# Altium integrated library Renesas Microcontroller 740.IntLib: 274 symbols (part 1 of 13)
Pins are listed as number, name and electrical type; pins without a type are passive.

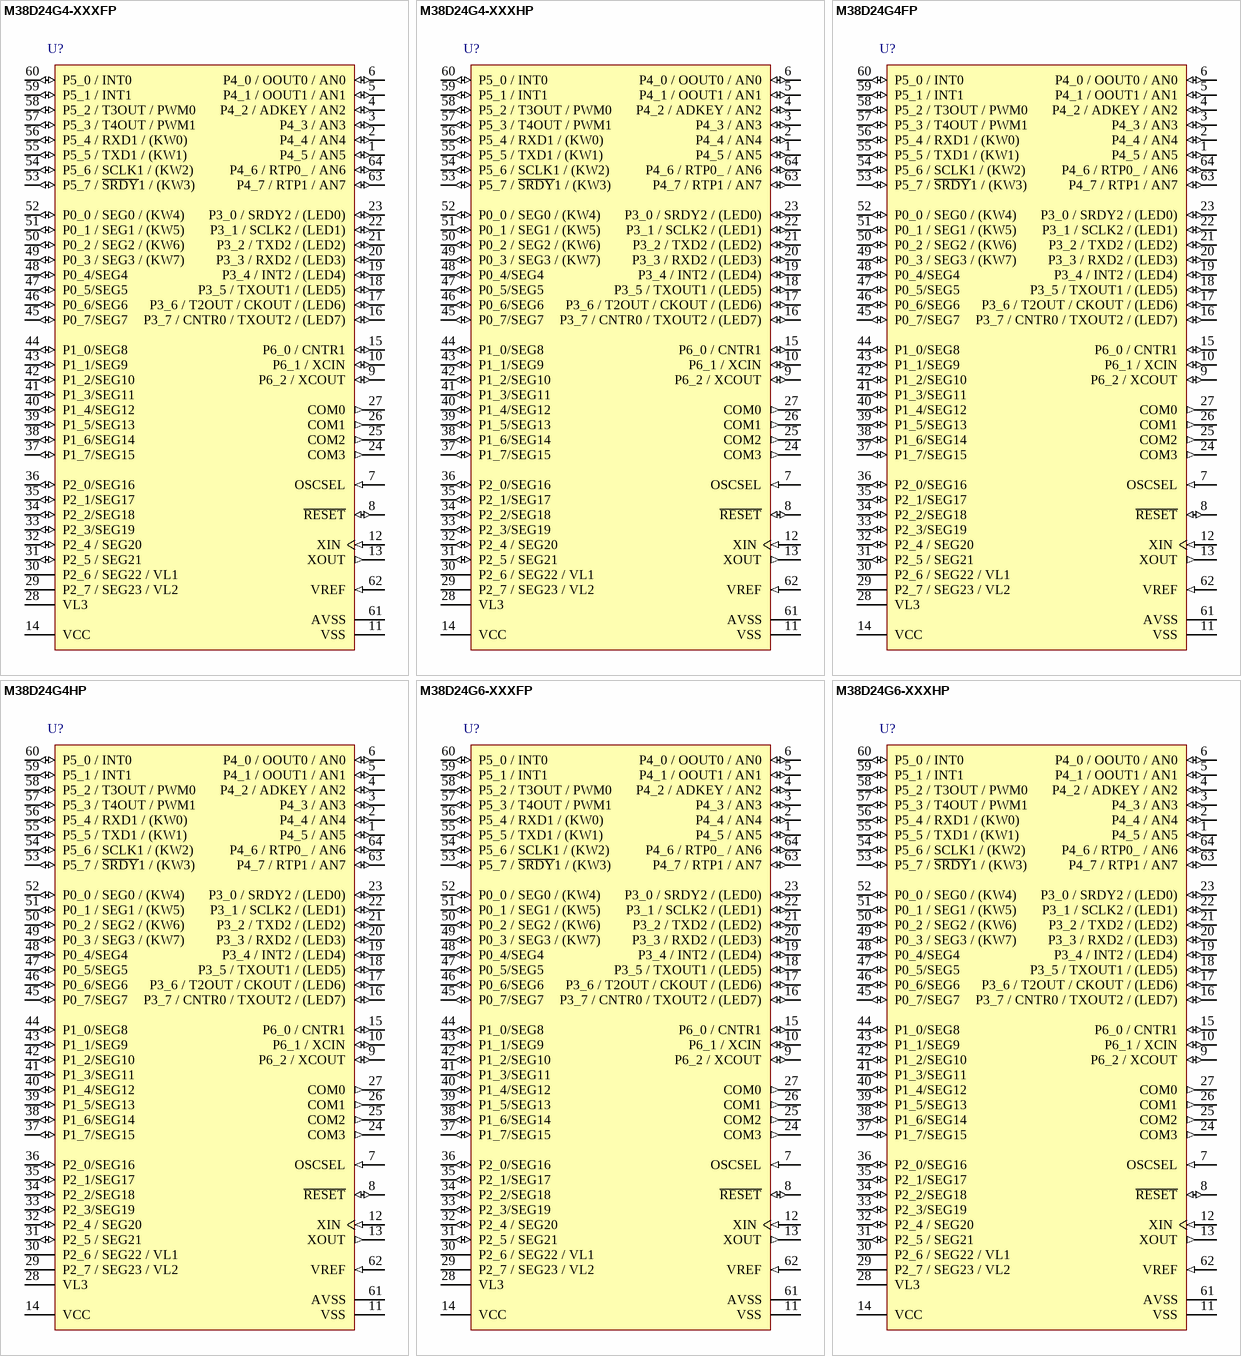
[diagram p0: symbols M38D24G4-XXXFP to M38D24G6-XXXHP]

## M38D24G4-XXXFP
designator U?
QzROM 8-BIT CMOS Microcomputer, 38000/740 Series CPU, 38D2 Group, 16K ROM, 640 bytes RAM, 64P6U-A Pkg; Published: 28-Aug-2009; DatasheetVersion: Rev.3.02, Apr-2008; PackageVersion: Oct-2005; PackageReference: PLQP0064GA-A; Publisher: Altium Limited; PackageDescription: 64-Pin Plastic Low Profile QFP, 14 x 14 x 1.4 mm Body, 0.8 mm Pitch; Code_JEITA: P-LQFP64-14x14-0.80; ComponentLink1Description: Manufacturer Link; ComponentLink1URL: http://sg.renesas.com/fmwk.jsp?cnt=740_family_landing.jsp&fp=/products/mpumcu/740_family/; ComponentLink2Description: Datasheet; ComponentLink2URL: http://documentation.renesas.com/eng/products/mpumcu/rej03b0177_38d2ds.pdf; ComponentLink3Description: Packaging Specification; ComponentLink3URL: http://sg.renesas.com/media/products/common_info/package/pdf/ic/code/plqp0064ga_a.pdf
footprint PLQP0064GA-A_N (QFP, 64-Leads, Body 14x14mm, Pitch 0.8mm, IPC Medium Density)
footprint PLQP0064GA-A_L (QFP, 64-Leads, Body 14x14mm, Pitch 0.8mm, IPC High Density)
footprint PLQP0064GA-A_M (QFP, 64-Leads, Body 14x14mm, Pitch 0.8mm, IPC Low Density)
pins: 1 P4_5 / AN5 (io), 2 P4_4 / AN4 (io), 3 P4_3 / AN3 (io), 4 P4_2 / ADKEY / AN2 (io), 5 P4_1 / OOUT1 / AN1 (io), 6 P4_0 / OOUT0 / AN0 (io), 7 OSCSEL (in), 8 ~{RESET} (io), 9 P6_2 / XCOUT (io), 10 P6_1 / XCIN (io), 11 VSS (power), 12 XIN (in), 13 XOUT (out), 14 VCC (power), 15 P6_0 / CNTR1 (io), 16 P3_7 / CNTR0 / TXOUT2 / (LED7) (io), 17 P3_6 / T2OUT / CKOUT / (LED6) (io), 18 P3_5 / TXOUT1 / (LED5) (io), 19 P3_4 / INT2 / (LED4) (io), 20 P3_3 / RXD2 / (LED3) (io), 21 P3_2 / TXD2 / (LED2) (io), 22 P3_1 / SCLK2 / (LED1) (io), 23 P3_0 / SRDY2 / (LED0) (io), 24 COM3 (out), 25 COM2 (out), 26 COM1 (out), 27 COM0 (out), 28 VL3 (power), 29 P2_7 / SEG23 / VL2, 30 P2_6 / SEG22 / VL1, 31 P2_5 / SEG21 (io), 32 P2_4 / SEG20 (io), 33 P2_3/SEG19 (io), 34 P2_2/SEG18 (io), 35 P2_1/SEG17 (io), 36 P2_0/SEG16 (io), 37 P1_7/SEG15 (io), 38 P1_6/SEG14 (io), 39 P1_5/SEG13 (io), 40 P1_4/SEG12 (io), 41 P1_3/SEG11 (io), 42 P1_2/SEG10 (io), 43 P1_1/SEG9 (io), 44 P1_0/SEG8 (io), 45 P0_7/SEG7 (io), 46 P0_6/SEG6 (io), 47 P0_5/SEG5 (io), 48 P0_4/SEG4 (io), 49 P0_3 / SEG3 / (KW7) (io), 50 P0_2 / SEG2 / (KW6) (io), 51 P0_1 / SEG1 / (KW5) (io), 52 P0_0 / SEG0 / (KW4) (io), 53 P5_7 / ~{SRDY}1 / (KW3) (io), 54 P5_6 / SCLK1 / (KW2) (io), 55 P5_5 / TXD1 / (KW1) (io), 56 P5_4 / RXD1 / (KW0) (io), 57 P5_3 / T4OUT / PWM1 (io), 58 P5_2 / T3OUT / PWM0 (io), 59 P5_1 / INT1 (io), 60 P5_0 / INT0 (io), 61 AVSS (power), 62 VREF (in), 63 P4_7 / RTP1 / AN7 (io), 64 P4_6 / RTP0_ / AN6 (io)

## M38D24G4-XXXHP
designator U?
QzROM 8-BIT CMOS Microcomputer, 38000/740 Series CPU, 38D2 Group, 16K ROM, 640 bytes RAM, 64P6Q-A Pkg; Published: 28-Aug-2009; DatasheetVersion: Rev.3.02, Apr-2008; PackageVersion: Sep-2005; PackageReference: PLQP0064KB-A; Publisher: Altium Limited; PackageDescription: 64-Pin Plastic Low Profile QFP, 10 x 10 x 1.4 mm Body, 0.5 mm Pitch; Code_JEITA: P-LQFP64-10x10-0.50; Code_IPC: SQFP50P1200X1200-64; ComponentLink1Description: Manufacturer Link; ComponentLink1URL: http://sg.renesas.com/fmwk.jsp?cnt=740_family_landing.jsp&fp=/products/mpumcu/740_family/; ComponentLink2Description: Datasheet; ComponentLink2URL: http://documentation.renesas.com/eng/products/mpumcu/rej03b0177_38d2ds.pdf; ComponentLink3Description: Packaging Specification; ComponentLink3URL: http://sg.renesas.com/media/products/common_info/package/pdf/ic/code/plqp0064kb_a.pdf
footprint PLQP0064KB-A_N (Shrink QFP, 64-Leads, Body 10x10mm, Pitch 0.5mm, IPC Medium Density)
footprint PLQP0064KB-A_L (Shrink QFP, 64-Leads, Body 10x10mm, Pitch 0.5mm, IPC High Density)
footprint PLQP0064KB-A_M (Shrink QFP, 64-Leads, Body 10x10mm, Pitch 0.5mm, IPC Low Density)
pins: 1 P4_5 / AN5 (io), 2 P4_4 / AN4 (io), 3 P4_3 / AN3 (io), 4 P4_2 / ADKEY / AN2 (io), 5 P4_1 / OOUT1 / AN1 (io), 6 P4_0 / OOUT0 / AN0 (io), 7 OSCSEL (in), 8 ~{RESET} (io), 9 P6_2 / XCOUT (io), 10 P6_1 / XCIN (io), 11 VSS (power), 12 XIN (in), 13 XOUT (out), 14 VCC (power), 15 P6_0 / CNTR1 (io), 16 P3_7 / CNTR0 / TXOUT2 / (LED7) (io), 17 P3_6 / T2OUT / CKOUT / (LED6) (io), 18 P3_5 / TXOUT1 / (LED5) (io), 19 P3_4 / INT2 / (LED4) (io), 20 P3_3 / RXD2 / (LED3) (io), 21 P3_2 / TXD2 / (LED2) (io), 22 P3_1 / SCLK2 / (LED1) (io), 23 P3_0 / SRDY2 / (LED0) (io), 24 COM3 (out), 25 COM2 (out), 26 COM1 (out), 27 COM0 (out), 28 VL3 (power), 29 P2_7 / SEG23 / VL2, 30 P2_6 / SEG22 / VL1, 31 P2_5 / SEG21 (io), 32 P2_4 / SEG20 (io), 33 P2_3/SEG19 (io), 34 P2_2/SEG18 (io), 35 P2_1/SEG17 (io), 36 P2_0/SEG16 (io), 37 P1_7/SEG15 (io), 38 P1_6/SEG14 (io), 39 P1_5/SEG13 (io), 40 P1_4/SEG12 (io), 41 P1_3/SEG11 (io), 42 P1_2/SEG10 (io), 43 P1_1/SEG9 (io), 44 P1_0/SEG8 (io), 45 P0_7/SEG7 (io), 46 P0_6/SEG6 (io), 47 P0_5/SEG5 (io), 48 P0_4/SEG4 (io), 49 P0_3 / SEG3 / (KW7) (io), 50 P0_2 / SEG2 / (KW6) (io), 51 P0_1 / SEG1 / (KW5) (io), 52 P0_0 / SEG0 / (KW4) (io), 53 P5_7 / ~{SRDY}1 / (KW3) (io), 54 P5_6 / SCLK1 / (KW2) (io), 55 P5_5 / TXD1 / (KW1) (io), 56 P5_4 / RXD1 / (KW0) (io), 57 P5_3 / T4OUT / PWM1 (io), 58 P5_2 / T3OUT / PWM0 (io), 59 P5_1 / INT1 (io), 60 P5_0 / INT0 (io), 61 AVSS (power), 62 VREF (in), 63 P4_7 / RTP1 / AN7 (io), 64 P4_6 / RTP0_ / AN6 (io)

## M38D24G4FP
designator U?
QzROM 8-BIT CMOS Microcomputer, 38000/740 Series CPU, 38D2 Group, 16K ROM, 640 bytes RAM, 64P6U-A Pkg, shipped in blank; Published: 28-Aug-2009; DatasheetVersion: Rev.3.02, Apr-2008; PackageVersion: Oct-2005; PackageReference: PLQP0064GA-A; Publisher: Altium Limited; PackageDescription: 64-Pin Plastic Low Profile QFP, 14 x 14 x 1.4 mm Body, 0.8 mm Pitch; Code_JEITA: P-LQFP64-14x14-0.80; ComponentLink1Description: Manufacturer Link; ComponentLink1URL: http://sg.renesas.com/fmwk.jsp?cnt=740_family_landing.jsp&fp=/products/mpumcu/740_family/; ComponentLink2Description: Datasheet; ComponentLink2URL: http://documentation.renesas.com/eng/products/mpumcu/rej03b0177_38d2ds.pdf; ComponentLink3Description: Packaging Specification; ComponentLink3URL: http://sg.renesas.com/media/products/common_info/package/pdf/ic/code/plqp0064ga_a.pdf
footprint PLQP0064GA-A_N (QFP, 64-Leads, Body 14x14mm, Pitch 0.8mm, IPC Medium Density)
footprint PLQP0064GA-A_L (QFP, 64-Leads, Body 14x14mm, Pitch 0.8mm, IPC High Density)
footprint PLQP0064GA-A_M (QFP, 64-Leads, Body 14x14mm, Pitch 0.8mm, IPC Low Density)
pins: 1 P4_5 / AN5 (io), 2 P4_4 / AN4 (io), 3 P4_3 / AN3 (io), 4 P4_2 / ADKEY / AN2 (io), 5 P4_1 / OOUT1 / AN1 (io), 6 P4_0 / OOUT0 / AN0 (io), 7 OSCSEL (in), 8 ~{RESET} (io), 9 P6_2 / XCOUT (io), 10 P6_1 / XCIN (io), 11 VSS (power), 12 XIN (in), 13 XOUT (out), 14 VCC (power), 15 P6_0 / CNTR1 (io), 16 P3_7 / CNTR0 / TXOUT2 / (LED7) (io), 17 P3_6 / T2OUT / CKOUT / (LED6) (io), 18 P3_5 / TXOUT1 / (LED5) (io), 19 P3_4 / INT2 / (LED4) (io), 20 P3_3 / RXD2 / (LED3) (io), 21 P3_2 / TXD2 / (LED2) (io), 22 P3_1 / SCLK2 / (LED1) (io), 23 P3_0 / SRDY2 / (LED0) (io), 24 COM3 (out), 25 COM2 (out), 26 COM1 (out), 27 COM0 (out), 28 VL3 (power), 29 P2_7 / SEG23 / VL2, 30 P2_6 / SEG22 / VL1, 31 P2_5 / SEG21 (io), 32 P2_4 / SEG20 (io), 33 P2_3/SEG19 (io), 34 P2_2/SEG18 (io), 35 P2_1/SEG17 (io), 36 P2_0/SEG16 (io), 37 P1_7/SEG15 (io), 38 P1_6/SEG14 (io), 39 P1_5/SEG13 (io), 40 P1_4/SEG12 (io), 41 P1_3/SEG11 (io), 42 P1_2/SEG10 (io), 43 P1_1/SEG9 (io), 44 P1_0/SEG8 (io), 45 P0_7/SEG7 (io), 46 P0_6/SEG6 (io), 47 P0_5/SEG5 (io), 48 P0_4/SEG4 (io), 49 P0_3 / SEG3 / (KW7) (io), 50 P0_2 / SEG2 / (KW6) (io), 51 P0_1 / SEG1 / (KW5) (io), 52 P0_0 / SEG0 / (KW4) (io), 53 P5_7 / ~{SRDY}1 / (KW3) (io), 54 P5_6 / SCLK1 / (KW2) (io), 55 P5_5 / TXD1 / (KW1) (io), 56 P5_4 / RXD1 / (KW0) (io), 57 P5_3 / T4OUT / PWM1 (io), 58 P5_2 / T3OUT / PWM0 (io), 59 P5_1 / INT1 (io), 60 P5_0 / INT0 (io), 61 AVSS (power), 62 VREF (in), 63 P4_7 / RTP1 / AN7 (io), 64 P4_6 / RTP0_ / AN6 (io)

## M38D24G4HP
designator U?
QzROM 8-BIT CMOS Microcomputer, 38000/740 Series CPU, 38D2 Group, 16K ROM, 640 bytes RAM, 64P6Q-A Pkg, shipped in blank; Published: 28-Aug-2009; DatasheetVersion: Rev.3.02, Apr-2008; PackageVersion: Sep-2005; PackageReference: PLQP0064KB-A; Publisher: Altium Limited; PackageDescription: 64-Pin Plastic Low Profile QFP, 10 x 10 x 1.4 mm Body, 0.5 mm Pitch; Code_JEITA: P-LQFP64-10x10-0.50; Code_IPC: SQFP50P1200X1200-64; ComponentLink1Description: Manufacturer Link; ComponentLink1URL: http://sg.renesas.com/fmwk.jsp?cnt=740_family_landing.jsp&fp=/products/mpumcu/740_family/; ComponentLink2Description: Datasheet; ComponentLink2URL: http://documentation.renesas.com/eng/products/mpumcu/rej03b0177_38d2ds.pdf; ComponentLink3Description: Packaging Specification; ComponentLink3URL: http://sg.renesas.com/media/products/common_info/package/pdf/ic/code/plqp0064kb_a.pdf
footprint PLQP0064KB-A_N (Shrink QFP, 64-Leads, Body 10x10mm, Pitch 0.5mm, IPC Medium Density)
footprint PLQP0064KB-A_L (Shrink QFP, 64-Leads, Body 10x10mm, Pitch 0.5mm, IPC High Density)
footprint PLQP0064KB-A_M (Shrink QFP, 64-Leads, Body 10x10mm, Pitch 0.5mm, IPC Low Density)
pins: 1 P4_5 / AN5 (io), 2 P4_4 / AN4 (io), 3 P4_3 / AN3 (io), 4 P4_2 / ADKEY / AN2 (io), 5 P4_1 / OOUT1 / AN1 (io), 6 P4_0 / OOUT0 / AN0 (io), 7 OSCSEL (in), 8 ~{RESET} (io), 9 P6_2 / XCOUT (io), 10 P6_1 / XCIN (io), 11 VSS (power), 12 XIN (in), 13 XOUT (out), 14 VCC (power), 15 P6_0 / CNTR1 (io), 16 P3_7 / CNTR0 / TXOUT2 / (LED7) (io), 17 P3_6 / T2OUT / CKOUT / (LED6) (io), 18 P3_5 / TXOUT1 / (LED5) (io), 19 P3_4 / INT2 / (LED4) (io), 20 P3_3 / RXD2 / (LED3) (io), 21 P3_2 / TXD2 / (LED2) (io), 22 P3_1 / SCLK2 / (LED1) (io), 23 P3_0 / SRDY2 / (LED0) (io), 24 COM3 (out), 25 COM2 (out), 26 COM1 (out), 27 COM0 (out), 28 VL3 (power), 29 P2_7 / SEG23 / VL2, 30 P2_6 / SEG22 / VL1, 31 P2_5 / SEG21 (io), 32 P2_4 / SEG20 (io), 33 P2_3/SEG19 (io), 34 P2_2/SEG18 (io), 35 P2_1/SEG17 (io), 36 P2_0/SEG16 (io), 37 P1_7/SEG15 (io), 38 P1_6/SEG14 (io), 39 P1_5/SEG13 (io), 40 P1_4/SEG12 (io), 41 P1_3/SEG11 (io), 42 P1_2/SEG10 (io), 43 P1_1/SEG9 (io), 44 P1_0/SEG8 (io), 45 P0_7/SEG7 (io), 46 P0_6/SEG6 (io), 47 P0_5/SEG5 (io), 48 P0_4/SEG4 (io), 49 P0_3 / SEG3 / (KW7) (io), 50 P0_2 / SEG2 / (KW6) (io), 51 P0_1 / SEG1 / (KW5) (io), 52 P0_0 / SEG0 / (KW4) (io), 53 P5_7 / ~{SRDY}1 / (KW3) (io), 54 P5_6 / SCLK1 / (KW2) (io), 55 P5_5 / TXD1 / (KW1) (io), 56 P5_4 / RXD1 / (KW0) (io), 57 P5_3 / T4OUT / PWM1 (io), 58 P5_2 / T3OUT / PWM0 (io), 59 P5_1 / INT1 (io), 60 P5_0 / INT0 (io), 61 AVSS (power), 62 VREF (in), 63 P4_7 / RTP1 / AN7 (io), 64 P4_6 / RTP0_ / AN6 (io)

## M38D24G6-XXXFP
designator U?
QzROM 8-BIT CMOS Microcomputer, 38000/740 Series CPU, 38D2 Group, 24K ROM, 640 bytes RAM, 64P6U-A Pkg; Published: 28-Aug-2009; DatasheetVersion: Rev.3.02, Apr-2008; PackageVersion: Oct-2005; PackageReference: PLQP0064GA-A; Publisher: Altium Limited; PackageDescription: 64-Pin Plastic Low Profile QFP, 14 x 14 x 1.4 mm Body, 0.8 mm Pitch; Code_JEITA: P-LQFP64-14x14-0.80; ComponentLink1Description: Manufacturer Link; ComponentLink1URL: http://sg.renesas.com/fmwk.jsp?cnt=740_family_landing.jsp&fp=/products/mpumcu/740_family/; ComponentLink2Description: Datasheet; ComponentLink2URL: http://documentation.renesas.com/eng/products/mpumcu/rej03b0177_38d2ds.pdf; ComponentLink3Description: Packaging Specification; ComponentLink3URL: http://sg.renesas.com/media/products/common_info/package/pdf/ic/code/plqp0064ga_a.pdf
footprint PLQP0064GA-A_N (QFP, 64-Leads, Body 14x14mm, Pitch 0.8mm, IPC Medium Density)
footprint PLQP0064GA-A_L (QFP, 64-Leads, Body 14x14mm, Pitch 0.8mm, IPC High Density)
footprint PLQP0064GA-A_M (QFP, 64-Leads, Body 14x14mm, Pitch 0.8mm, IPC Low Density)
pins: 1 P4_5 / AN5 (io), 2 P4_4 / AN4 (io), 3 P4_3 / AN3 (io), 4 P4_2 / ADKEY / AN2 (io), 5 P4_1 / OOUT1 / AN1 (io), 6 P4_0 / OOUT0 / AN0 (io), 7 OSCSEL (in), 8 ~{RESET} (io), 9 P6_2 / XCOUT (io), 10 P6_1 / XCIN (io), 11 VSS (power), 12 XIN (in), 13 XOUT (out), 14 VCC (power), 15 P6_0 / CNTR1 (io), 16 P3_7 / CNTR0 / TXOUT2 / (LED7) (io), 17 P3_6 / T2OUT / CKOUT / (LED6) (io), 18 P3_5 / TXOUT1 / (LED5) (io), 19 P3_4 / INT2 / (LED4) (io), 20 P3_3 / RXD2 / (LED3) (io), 21 P3_2 / TXD2 / (LED2) (io), 22 P3_1 / SCLK2 / (LED1) (io), 23 P3_0 / SRDY2 / (LED0) (io), 24 COM3 (out), 25 COM2 (out), 26 COM1 (out), 27 COM0 (out), 28 VL3 (power), 29 P2_7 / SEG23 / VL2, 30 P2_6 / SEG22 / VL1, 31 P2_5 / SEG21 (io), 32 P2_4 / SEG20 (io), 33 P2_3/SEG19 (io), 34 P2_2/SEG18 (io), 35 P2_1/SEG17 (io), 36 P2_0/SEG16 (io), 37 P1_7/SEG15 (io), 38 P1_6/SEG14 (io), 39 P1_5/SEG13 (io), 40 P1_4/SEG12 (io), 41 P1_3/SEG11 (io), 42 P1_2/SEG10 (io), 43 P1_1/SEG9 (io), 44 P1_0/SEG8 (io), 45 P0_7/SEG7 (io), 46 P0_6/SEG6 (io), 47 P0_5/SEG5 (io), 48 P0_4/SEG4 (io), 49 P0_3 / SEG3 / (KW7) (io), 50 P0_2 / SEG2 / (KW6) (io), 51 P0_1 / SEG1 / (KW5) (io), 52 P0_0 / SEG0 / (KW4) (io), 53 P5_7 / ~{SRDY}1 / (KW3) (io), 54 P5_6 / SCLK1 / (KW2) (io), 55 P5_5 / TXD1 / (KW1) (io), 56 P5_4 / RXD1 / (KW0) (io), 57 P5_3 / T4OUT / PWM1 (io), 58 P5_2 / T3OUT / PWM0 (io), 59 P5_1 / INT1 (io), 60 P5_0 / INT0 (io), 61 AVSS (power), 62 VREF (in), 63 P4_7 / RTP1 / AN7 (io), 64 P4_6 / RTP0_ / AN6 (io)

## M38D24G6-XXXHP
designator U?
QzROM 8-BIT CMOS Microcomputer, 38000/740 Series CPU, 38D2 Group, 24K ROM, 640 bytes RAM, 64P6Q-A Pkg; Published: 28-Aug-2009; DatasheetVersion: Rev.3.02, Apr-2008; PackageVersion: Sep-2005; PackageReference: PLQP0064KB-A; Publisher: Altium Limited; PackageDescription: 64-Pin Plastic Low Profile QFP, 10 x 10 x 1.4 mm Body, 0.5 mm Pitch; Code_JEITA: P-LQFP64-10x10-0.50; Code_IPC: SQFP50P1200X1200-64; ComponentLink1Description: Manufacturer Link; ComponentLink1URL: http://sg.renesas.com/fmwk.jsp?cnt=740_family_landing.jsp&fp=/products/mpumcu/740_family/; ComponentLink2Description: Datasheet; ComponentLink2URL: http://documentation.renesas.com/eng/products/mpumcu/rej03b0177_38d2ds.pdf; ComponentLink3Description: Packaging Specification; ComponentLink3URL: http://sg.renesas.com/media/products/common_info/package/pdf/ic/code/plqp0064kb_a.pdf
footprint PLQP0064KB-A_N (Shrink QFP, 64-Leads, Body 10x10mm, Pitch 0.5mm, IPC Medium Density)
footprint PLQP0064KB-A_L (Shrink QFP, 64-Leads, Body 10x10mm, Pitch 0.5mm, IPC High Density)
footprint PLQP0064KB-A_M (Shrink QFP, 64-Leads, Body 10x10mm, Pitch 0.5mm, IPC Low Density)
pins: 1 P4_5 / AN5 (io), 2 P4_4 / AN4 (io), 3 P4_3 / AN3 (io), 4 P4_2 / ADKEY / AN2 (io), 5 P4_1 / OOUT1 / AN1 (io), 6 P4_0 / OOUT0 / AN0 (io), 7 OSCSEL (in), 8 ~{RESET} (io), 9 P6_2 / XCOUT (io), 10 P6_1 / XCIN (io), 11 VSS (power), 12 XIN (in), 13 XOUT (out), 14 VCC (power), 15 P6_0 / CNTR1 (io), 16 P3_7 / CNTR0 / TXOUT2 / (LED7) (io), 17 P3_6 / T2OUT / CKOUT / (LED6) (io), 18 P3_5 / TXOUT1 / (LED5) (io), 19 P3_4 / INT2 / (LED4) (io), 20 P3_3 / RXD2 / (LED3) (io), 21 P3_2 / TXD2 / (LED2) (io), 22 P3_1 / SCLK2 / (LED1) (io), 23 P3_0 / SRDY2 / (LED0) (io), 24 COM3 (out), 25 COM2 (out), 26 COM1 (out), 27 COM0 (out), 28 VL3 (power), 29 P2_7 / SEG23 / VL2, 30 P2_6 / SEG22 / VL1, 31 P2_5 / SEG21 (io), 32 P2_4 / SEG20 (io), 33 P2_3/SEG19 (io), 34 P2_2/SEG18 (io), 35 P2_1/SEG17 (io), 36 P2_0/SEG16 (io), 37 P1_7/SEG15 (io), 38 P1_6/SEG14 (io), 39 P1_5/SEG13 (io), 40 P1_4/SEG12 (io), 41 P1_3/SEG11 (io), 42 P1_2/SEG10 (io), 43 P1_1/SEG9 (io), 44 P1_0/SEG8 (io), 45 P0_7/SEG7 (io), 46 P0_6/SEG6 (io), 47 P0_5/SEG5 (io), 48 P0_4/SEG4 (io), 49 P0_3 / SEG3 / (KW7) (io), 50 P0_2 / SEG2 / (KW6) (io), 51 P0_1 / SEG1 / (KW5) (io), 52 P0_0 / SEG0 / (KW4) (io), 53 P5_7 / ~{SRDY}1 / (KW3) (io), 54 P5_6 / SCLK1 / (KW2) (io), 55 P5_5 / TXD1 / (KW1) (io), 56 P5_4 / RXD1 / (KW0) (io), 57 P5_3 / T4OUT / PWM1 (io), 58 P5_2 / T3OUT / PWM0 (io), 59 P5_1 / INT1 (io), 60 P5_0 / INT0 (io), 61 AVSS (power), 62 VREF (in), 63 P4_7 / RTP1 / AN7 (io), 64 P4_6 / RTP0_ / AN6 (io)

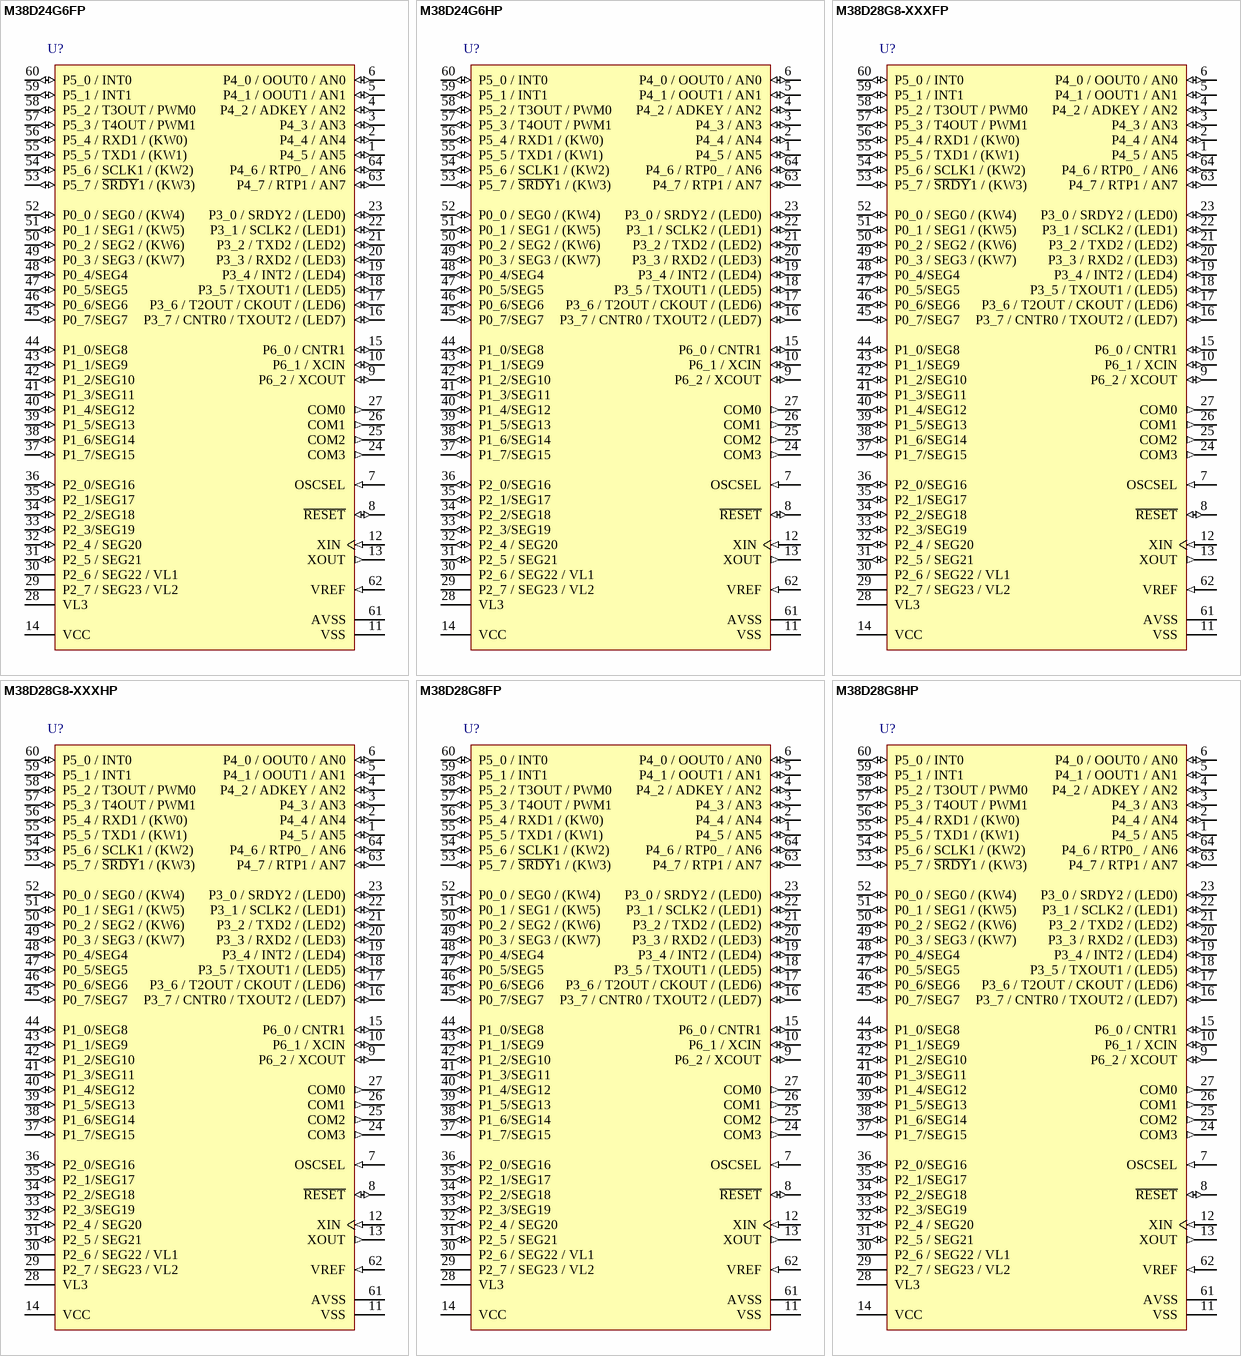
[diagram p1: symbols M38D24G6FP to M38D28G8HP]

## M38D24G6FP
designator U?
QzROM 8-BIT CMOS Microcomputer, 38000/740 Series CPU, 38D2 Group, 24K ROM, 640 bytes RAM, 64P6U-A Pkg, shipped in blank; Published: 28-Aug-2009; DatasheetVersion: Rev.3.02, Apr-2008; PackageVersion: Oct-2005; PackageReference: PLQP0064GA-A; Publisher: Altium Limited; PackageDescription: 64-Pin Plastic Low Profile QFP, 14 x 14 x 1.4 mm Body, 0.8 mm Pitch; Code_JEITA: P-LQFP64-14x14-0.80; ComponentLink1Description: Manufacturer Link; ComponentLink1URL: http://sg.renesas.com/fmwk.jsp?cnt=740_family_landing.jsp&fp=/products/mpumcu/740_family/; ComponentLink2Description: Datasheet; ComponentLink2URL: http://documentation.renesas.com/eng/products/mpumcu/rej03b0177_38d2ds.pdf; ComponentLink3Description: Packaging Specification; ComponentLink3URL: http://sg.renesas.com/media/products/common_info/package/pdf/ic/code/plqp0064ga_a.pdf
footprint PLQP0064GA-A_N (QFP, 64-Leads, Body 14x14mm, Pitch 0.8mm, IPC Medium Density)
footprint PLQP0064GA-A_L (QFP, 64-Leads, Body 14x14mm, Pitch 0.8mm, IPC High Density)
footprint PLQP0064GA-A_M (QFP, 64-Leads, Body 14x14mm, Pitch 0.8mm, IPC Low Density)
pins: 1 P4_5 / AN5 (io), 2 P4_4 / AN4 (io), 3 P4_3 / AN3 (io), 4 P4_2 / ADKEY / AN2 (io), 5 P4_1 / OOUT1 / AN1 (io), 6 P4_0 / OOUT0 / AN0 (io), 7 OSCSEL (in), 8 ~{RESET} (io), 9 P6_2 / XCOUT (io), 10 P6_1 / XCIN (io), 11 VSS (power), 12 XIN (in), 13 XOUT (out), 14 VCC (power), 15 P6_0 / CNTR1 (io), 16 P3_7 / CNTR0 / TXOUT2 / (LED7) (io), 17 P3_6 / T2OUT / CKOUT / (LED6) (io), 18 P3_5 / TXOUT1 / (LED5) (io), 19 P3_4 / INT2 / (LED4) (io), 20 P3_3 / RXD2 / (LED3) (io), 21 P3_2 / TXD2 / (LED2) (io), 22 P3_1 / SCLK2 / (LED1) (io), 23 P3_0 / SRDY2 / (LED0) (io), 24 COM3 (out), 25 COM2 (out), 26 COM1 (out), 27 COM0 (out), 28 VL3 (power), 29 P2_7 / SEG23 / VL2, 30 P2_6 / SEG22 / VL1, 31 P2_5 / SEG21 (io), 32 P2_4 / SEG20 (io), 33 P2_3/SEG19 (io), 34 P2_2/SEG18 (io), 35 P2_1/SEG17 (io), 36 P2_0/SEG16 (io), 37 P1_7/SEG15 (io), 38 P1_6/SEG14 (io), 39 P1_5/SEG13 (io), 40 P1_4/SEG12 (io), 41 P1_3/SEG11 (io), 42 P1_2/SEG10 (io), 43 P1_1/SEG9 (io), 44 P1_0/SEG8 (io), 45 P0_7/SEG7 (io), 46 P0_6/SEG6 (io), 47 P0_5/SEG5 (io), 48 P0_4/SEG4 (io), 49 P0_3 / SEG3 / (KW7) (io), 50 P0_2 / SEG2 / (KW6) (io), 51 P0_1 / SEG1 / (KW5) (io), 52 P0_0 / SEG0 / (KW4) (io), 53 P5_7 / ~{SRDY}1 / (KW3) (io), 54 P5_6 / SCLK1 / (KW2) (io), 55 P5_5 / TXD1 / (KW1) (io), 56 P5_4 / RXD1 / (KW0) (io), 57 P5_3 / T4OUT / PWM1 (io), 58 P5_2 / T3OUT / PWM0 (io), 59 P5_1 / INT1 (io), 60 P5_0 / INT0 (io), 61 AVSS (power), 62 VREF (in), 63 P4_7 / RTP1 / AN7 (io), 64 P4_6 / RTP0_ / AN6 (io)

## M38D24G6HP
designator U?
QzROM 8-BIT CMOS Microcomputer, 38000/740 Series CPU, 38D2 Group, 24K ROM, 640 bytes RAM, 64P6Q-A Pkg, shipped in blank; Published: 28-Aug-2009; DatasheetVersion: Rev.3.02, Apr-2008; PackageVersion: Sep-2005; PackageReference: PLQP0064KB-A; Publisher: Altium Limited; PackageDescription: 64-Pin Plastic Low Profile QFP, 10 x 10 x 1.4 mm Body, 0.5 mm Pitch; Code_JEITA: P-LQFP64-10x10-0.50; Code_IPC: SQFP50P1200X1200-64; ComponentLink1Description: Manufacturer Link; ComponentLink1URL: http://sg.renesas.com/fmwk.jsp?cnt=740_family_landing.jsp&fp=/products/mpumcu/740_family/; ComponentLink2Description: Datasheet; ComponentLink2URL: http://documentation.renesas.com/eng/products/mpumcu/rej03b0177_38d2ds.pdf; ComponentLink3Description: Packaging Specification; ComponentLink3URL: http://sg.renesas.com/media/products/common_info/package/pdf/ic/code/plqp0064kb_a.pdf
footprint PLQP0064KB-A_N (Shrink QFP, 64-Leads, Body 10x10mm, Pitch 0.5mm, IPC Medium Density)
footprint PLQP0064KB-A_L (Shrink QFP, 64-Leads, Body 10x10mm, Pitch 0.5mm, IPC High Density)
footprint PLQP0064KB-A_M (Shrink QFP, 64-Leads, Body 10x10mm, Pitch 0.5mm, IPC Low Density)
pins: 1 P4_5 / AN5 (io), 2 P4_4 / AN4 (io), 3 P4_3 / AN3 (io), 4 P4_2 / ADKEY / AN2 (io), 5 P4_1 / OOUT1 / AN1 (io), 6 P4_0 / OOUT0 / AN0 (io), 7 OSCSEL (in), 8 ~{RESET} (io), 9 P6_2 / XCOUT (io), 10 P6_1 / XCIN (io), 11 VSS (power), 12 XIN (in), 13 XOUT (out), 14 VCC (power), 15 P6_0 / CNTR1 (io), 16 P3_7 / CNTR0 / TXOUT2 / (LED7) (io), 17 P3_6 / T2OUT / CKOUT / (LED6) (io), 18 P3_5 / TXOUT1 / (LED5) (io), 19 P3_4 / INT2 / (LED4) (io), 20 P3_3 / RXD2 / (LED3) (io), 21 P3_2 / TXD2 / (LED2) (io), 22 P3_1 / SCLK2 / (LED1) (io), 23 P3_0 / SRDY2 / (LED0) (io), 24 COM3 (out), 25 COM2 (out), 26 COM1 (out), 27 COM0 (out), 28 VL3 (power), 29 P2_7 / SEG23 / VL2, 30 P2_6 / SEG22 / VL1, 31 P2_5 / SEG21 (io), 32 P2_4 / SEG20 (io), 33 P2_3/SEG19 (io), 34 P2_2/SEG18 (io), 35 P2_1/SEG17 (io), 36 P2_0/SEG16 (io), 37 P1_7/SEG15 (io), 38 P1_6/SEG14 (io), 39 P1_5/SEG13 (io), 40 P1_4/SEG12 (io), 41 P1_3/SEG11 (io), 42 P1_2/SEG10 (io), 43 P1_1/SEG9 (io), 44 P1_0/SEG8 (io), 45 P0_7/SEG7 (io), 46 P0_6/SEG6 (io), 47 P0_5/SEG5 (io), 48 P0_4/SEG4 (io), 49 P0_3 / SEG3 / (KW7) (io), 50 P0_2 / SEG2 / (KW6) (io), 51 P0_1 / SEG1 / (KW5) (io), 52 P0_0 / SEG0 / (KW4) (io), 53 P5_7 / ~{SRDY}1 / (KW3) (io), 54 P5_6 / SCLK1 / (KW2) (io), 55 P5_5 / TXD1 / (KW1) (io), 56 P5_4 / RXD1 / (KW0) (io), 57 P5_3 / T4OUT / PWM1 (io), 58 P5_2 / T3OUT / PWM0 (io), 59 P5_1 / INT1 (io), 60 P5_0 / INT0 (io), 61 AVSS (power), 62 VREF (in), 63 P4_7 / RTP1 / AN7 (io), 64 P4_6 / RTP0_ / AN6 (io)

## M38D28G8-XXXFP
designator U?
QzROM 8-BIT CMOS Microcomputer, 38000/740 Series CPU, 38D2 Group, 32K ROM, 1.5K RAM, 64P6U-A Pkg; Published: 28-Aug-2009; DatasheetVersion: Rev.3.02, Apr-2008; PackageVersion: Oct-2005; PackageReference: PLQP0064GA-A; Publisher: Altium Limited; PackageDescription: 64-Pin Plastic Low Profile QFP, 14 x 14 x 1.4 mm Body, 0.8 mm Pitch; Code_JEITA: P-LQFP64-14x14-0.80; ComponentLink1Description: Manufacturer Link; ComponentLink1URL: http://sg.renesas.com/fmwk.jsp?cnt=740_family_landing.jsp&fp=/products/mpumcu/740_family/; ComponentLink2Description: Datasheet; ComponentLink2URL: http://documentation.renesas.com/eng/products/mpumcu/rej03b0177_38d2ds.pdf; ComponentLink3Description: Packaging Specification; ComponentLink3URL: http://sg.renesas.com/media/products/common_info/package/pdf/ic/code/plqp0064ga_a.pdf
footprint PLQP0064GA-A_N (QFP, 64-Leads, Body 14x14mm, Pitch 0.8mm, IPC Medium Density)
footprint PLQP0064GA-A_L (QFP, 64-Leads, Body 14x14mm, Pitch 0.8mm, IPC High Density)
footprint PLQP0064GA-A_M (QFP, 64-Leads, Body 14x14mm, Pitch 0.8mm, IPC Low Density)
pins: 1 P4_5 / AN5 (io), 2 P4_4 / AN4 (io), 3 P4_3 / AN3 (io), 4 P4_2 / ADKEY / AN2 (io), 5 P4_1 / OOUT1 / AN1 (io), 6 P4_0 / OOUT0 / AN0 (io), 7 OSCSEL (in), 8 ~{RESET} (io), 9 P6_2 / XCOUT (io), 10 P6_1 / XCIN (io), 11 VSS (power), 12 XIN (in), 13 XOUT (out), 14 VCC (power), 15 P6_0 / CNTR1 (io), 16 P3_7 / CNTR0 / TXOUT2 / (LED7) (io), 17 P3_6 / T2OUT / CKOUT / (LED6) (io), 18 P3_5 / TXOUT1 / (LED5) (io), 19 P3_4 / INT2 / (LED4) (io), 20 P3_3 / RXD2 / (LED3) (io), 21 P3_2 / TXD2 / (LED2) (io), 22 P3_1 / SCLK2 / (LED1) (io), 23 P3_0 / SRDY2 / (LED0) (io), 24 COM3 (out), 25 COM2 (out), 26 COM1 (out), 27 COM0 (out), 28 VL3 (power), 29 P2_7 / SEG23 / VL2, 30 P2_6 / SEG22 / VL1, 31 P2_5 / SEG21 (io), 32 P2_4 / SEG20 (io), 33 P2_3/SEG19 (io), 34 P2_2/SEG18 (io), 35 P2_1/SEG17 (io), 36 P2_0/SEG16 (io), 37 P1_7/SEG15 (io), 38 P1_6/SEG14 (io), 39 P1_5/SEG13 (io), 40 P1_4/SEG12 (io), 41 P1_3/SEG11 (io), 42 P1_2/SEG10 (io), 43 P1_1/SEG9 (io), 44 P1_0/SEG8 (io), 45 P0_7/SEG7 (io), 46 P0_6/SEG6 (io), 47 P0_5/SEG5 (io), 48 P0_4/SEG4 (io), 49 P0_3 / SEG3 / (KW7) (io), 50 P0_2 / SEG2 / (KW6) (io), 51 P0_1 / SEG1 / (KW5) (io), 52 P0_0 / SEG0 / (KW4) (io), 53 P5_7 / ~{SRDY}1 / (KW3) (io), 54 P5_6 / SCLK1 / (KW2) (io), 55 P5_5 / TXD1 / (KW1) (io), 56 P5_4 / RXD1 / (KW0) (io), 57 P5_3 / T4OUT / PWM1 (io), 58 P5_2 / T3OUT / PWM0 (io), 59 P5_1 / INT1 (io), 60 P5_0 / INT0 (io), 61 AVSS (power), 62 VREF (in), 63 P4_7 / RTP1 / AN7 (io), 64 P4_6 / RTP0_ / AN6 (io)

## M38D28G8-XXXHP
designator U?
QzROM 8-BIT CMOS Microcomputer, 38000/740 Series CPU, 38D2 Group, 32K ROM, 1.5K RAM, 64P6Q-A Pkg; Published: 28-Aug-2009; DatasheetVersion: Rev.3.02, Apr-2008; PackageVersion: Sep-2005; PackageReference: PLQP0064KB-A; Publisher: Altium Limited; PackageDescription: 64-Pin Plastic Low Profile QFP, 10 x 10 x 1.4 mm Body, 0.5 mm Pitch; Code_JEITA: P-LQFP64-10x10-0.50; Code_IPC: SQFP50P1200X1200-64; ComponentLink1Description: Manufacturer Link; ComponentLink1URL: http://sg.renesas.com/fmwk.jsp?cnt=740_family_landing.jsp&fp=/products/mpumcu/740_family/; ComponentLink2Description: Datasheet; ComponentLink2URL: http://documentation.renesas.com/eng/products/mpumcu/rej03b0177_38d2ds.pdf; ComponentLink3Description: Packaging Specification; ComponentLink3URL: http://sg.renesas.com/media/products/common_info/package/pdf/ic/code/plqp0064kb_a.pdf
footprint PLQP0064KB-A_N (Shrink QFP, 64-Leads, Body 10x10mm, Pitch 0.5mm, IPC Medium Density)
footprint PLQP0064KB-A_L (Shrink QFP, 64-Leads, Body 10x10mm, Pitch 0.5mm, IPC High Density)
footprint PLQP0064KB-A_M (Shrink QFP, 64-Leads, Body 10x10mm, Pitch 0.5mm, IPC Low Density)
pins: 1 P4_5 / AN5 (io), 2 P4_4 / AN4 (io), 3 P4_3 / AN3 (io), 4 P4_2 / ADKEY / AN2 (io), 5 P4_1 / OOUT1 / AN1 (io), 6 P4_0 / OOUT0 / AN0 (io), 7 OSCSEL (in), 8 ~{RESET} (io), 9 P6_2 / XCOUT (io), 10 P6_1 / XCIN (io), 11 VSS (power), 12 XIN (in), 13 XOUT (out), 14 VCC (power), 15 P6_0 / CNTR1 (io), 16 P3_7 / CNTR0 / TXOUT2 / (LED7) (io), 17 P3_6 / T2OUT / CKOUT / (LED6) (io), 18 P3_5 / TXOUT1 / (LED5) (io), 19 P3_4 / INT2 / (LED4) (io), 20 P3_3 / RXD2 / (LED3) (io), 21 P3_2 / TXD2 / (LED2) (io), 22 P3_1 / SCLK2 / (LED1) (io), 23 P3_0 / SRDY2 / (LED0) (io), 24 COM3 (out), 25 COM2 (out), 26 COM1 (out), 27 COM0 (out), 28 VL3 (power), 29 P2_7 / SEG23 / VL2, 30 P2_6 / SEG22 / VL1, 31 P2_5 / SEG21 (io), 32 P2_4 / SEG20 (io), 33 P2_3/SEG19 (io), 34 P2_2/SEG18 (io), 35 P2_1/SEG17 (io), 36 P2_0/SEG16 (io), 37 P1_7/SEG15 (io), 38 P1_6/SEG14 (io), 39 P1_5/SEG13 (io), 40 P1_4/SEG12 (io), 41 P1_3/SEG11 (io), 42 P1_2/SEG10 (io), 43 P1_1/SEG9 (io), 44 P1_0/SEG8 (io), 45 P0_7/SEG7 (io), 46 P0_6/SEG6 (io), 47 P0_5/SEG5 (io), 48 P0_4/SEG4 (io), 49 P0_3 / SEG3 / (KW7) (io), 50 P0_2 / SEG2 / (KW6) (io), 51 P0_1 / SEG1 / (KW5) (io), 52 P0_0 / SEG0 / (KW4) (io), 53 P5_7 / ~{SRDY}1 / (KW3) (io), 54 P5_6 / SCLK1 / (KW2) (io), 55 P5_5 / TXD1 / (KW1) (io), 56 P5_4 / RXD1 / (KW0) (io), 57 P5_3 / T4OUT / PWM1 (io), 58 P5_2 / T3OUT / PWM0 (io), 59 P5_1 / INT1 (io), 60 P5_0 / INT0 (io), 61 AVSS (power), 62 VREF (in), 63 P4_7 / RTP1 / AN7 (io), 64 P4_6 / RTP0_ / AN6 (io)

## M38D28G8FP
designator U?
QzROM 8-BIT CMOS Microcomputer, 38000/740 Series CPU, 38D2 Group, 32K ROM, 1.5K RAM, 64P6U-A Pkg, shipped in blank; Published: 28-Aug-2009; DatasheetVersion: Rev.3.02, Apr-2008; PackageVersion: Oct-2005; PackageReference: PLQP0064GA-A; Publisher: Altium Limited; PackageDescription: 64-Pin Plastic Low Profile QFP, 14 x 14 x 1.4 mm Body, 0.8 mm Pitch; Code_JEITA: P-LQFP64-14x14-0.80; ComponentLink1Description: Manufacturer Link; ComponentLink1URL: http://sg.renesas.com/fmwk.jsp?cnt=740_family_landing.jsp&fp=/products/mpumcu/740_family/; ComponentLink2Description: Datasheet; ComponentLink2URL: http://documentation.renesas.com/eng/products/mpumcu/rej03b0177_38d2ds.pdf; ComponentLink3Description: Packaging Specification; ComponentLink3URL: http://sg.renesas.com/media/products/common_info/package/pdf/ic/code/plqp0064ga_a.pdf
footprint PLQP0064GA-A_N (QFP, 64-Leads, Body 14x14mm, Pitch 0.8mm, IPC Medium Density)
footprint PLQP0064GA-A_L (QFP, 64-Leads, Body 14x14mm, Pitch 0.8mm, IPC High Density)
footprint PLQP0064GA-A_M (QFP, 64-Leads, Body 14x14mm, Pitch 0.8mm, IPC Low Density)
pins: 1 P4_5 / AN5 (io), 2 P4_4 / AN4 (io), 3 P4_3 / AN3 (io), 4 P4_2 / ADKEY / AN2 (io), 5 P4_1 / OOUT1 / AN1 (io), 6 P4_0 / OOUT0 / AN0 (io), 7 OSCSEL (in), 8 ~{RESET} (io), 9 P6_2 / XCOUT (io), 10 P6_1 / XCIN (io), 11 VSS (power), 12 XIN (in), 13 XOUT (out), 14 VCC (power), 15 P6_0 / CNTR1 (io), 16 P3_7 / CNTR0 / TXOUT2 / (LED7) (io), 17 P3_6 / T2OUT / CKOUT / (LED6) (io), 18 P3_5 / TXOUT1 / (LED5) (io), 19 P3_4 / INT2 / (LED4) (io), 20 P3_3 / RXD2 / (LED3) (io), 21 P3_2 / TXD2 / (LED2) (io), 22 P3_1 / SCLK2 / (LED1) (io), 23 P3_0 / SRDY2 / (LED0) (io), 24 COM3 (out), 25 COM2 (out), 26 COM1 (out), 27 COM0 (out), 28 VL3 (power), 29 P2_7 / SEG23 / VL2, 30 P2_6 / SEG22 / VL1, 31 P2_5 / SEG21 (io), 32 P2_4 / SEG20 (io), 33 P2_3/SEG19 (io), 34 P2_2/SEG18 (io), 35 P2_1/SEG17 (io), 36 P2_0/SEG16 (io), 37 P1_7/SEG15 (io), 38 P1_6/SEG14 (io), 39 P1_5/SEG13 (io), 40 P1_4/SEG12 (io), 41 P1_3/SEG11 (io), 42 P1_2/SEG10 (io), 43 P1_1/SEG9 (io), 44 P1_0/SEG8 (io), 45 P0_7/SEG7 (io), 46 P0_6/SEG6 (io), 47 P0_5/SEG5 (io), 48 P0_4/SEG4 (io), 49 P0_3 / SEG3 / (KW7) (io), 50 P0_2 / SEG2 / (KW6) (io), 51 P0_1 / SEG1 / (KW5) (io), 52 P0_0 / SEG0 / (KW4) (io), 53 P5_7 / ~{SRDY}1 / (KW3) (io), 54 P5_6 / SCLK1 / (KW2) (io), 55 P5_5 / TXD1 / (KW1) (io), 56 P5_4 / RXD1 / (KW0) (io), 57 P5_3 / T4OUT / PWM1 (io), 58 P5_2 / T3OUT / PWM0 (io), 59 P5_1 / INT1 (io), 60 P5_0 / INT0 (io), 61 AVSS (power), 62 VREF (in), 63 P4_7 / RTP1 / AN7 (io), 64 P4_6 / RTP0_ / AN6 (io)

## M38D28G8HP
designator U?
QzROM 8-BIT CMOS Microcomputer, 38000/740 Series CPU, 38D2 Group, 32K ROM, 1.5K RAM, 64P6Q-A Pkg, shipped in blank; Published: 28-Aug-2009; DatasheetVersion: Rev.3.02, Apr-2008; PackageVersion: Sep-2005; PackageReference: PLQP0064KB-A; Publisher: Altium Limited; PackageDescription: 64-Pin Plastic Low Profile QFP, 10 x 10 x 1.4 mm Body, 0.5 mm Pitch; Code_JEITA: P-LQFP64-10x10-0.50; Code_IPC: SQFP50P1200X1200-64; ComponentLink1Description: Manufacturer Link; ComponentLink1URL: http://sg.renesas.com/fmwk.jsp?cnt=740_family_landing.jsp&fp=/products/mpumcu/740_family/; ComponentLink2Description: Datasheet; ComponentLink2URL: http://documentation.renesas.com/eng/products/mpumcu/rej03b0177_38d2ds.pdf; ComponentLink3Description: Packaging Specification; ComponentLink3URL: http://sg.renesas.com/media/products/common_info/package/pdf/ic/code/plqp0064kb_a.pdf
footprint PLQP0064KB-A_N (Shrink QFP, 64-Leads, Body 10x10mm, Pitch 0.5mm, IPC Medium Density)
footprint PLQP0064KB-A_L (Shrink QFP, 64-Leads, Body 10x10mm, Pitch 0.5mm, IPC High Density)
footprint PLQP0064KB-A_M (Shrink QFP, 64-Leads, Body 10x10mm, Pitch 0.5mm, IPC Low Density)
pins: 1 P4_5 / AN5 (io), 2 P4_4 / AN4 (io), 3 P4_3 / AN3 (io), 4 P4_2 / ADKEY / AN2 (io), 5 P4_1 / OOUT1 / AN1 (io), 6 P4_0 / OOUT0 / AN0 (io), 7 OSCSEL (in), 8 ~{RESET} (io), 9 P6_2 / XCOUT (io), 10 P6_1 / XCIN (io), 11 VSS (power), 12 XIN (in), 13 XOUT (out), 14 VCC (power), 15 P6_0 / CNTR1 (io), 16 P3_7 / CNTR0 / TXOUT2 / (LED7) (io), 17 P3_6 / T2OUT / CKOUT / (LED6) (io), 18 P3_5 / TXOUT1 / (LED5) (io), 19 P3_4 / INT2 / (LED4) (io), 20 P3_3 / RXD2 / (LED3) (io), 21 P3_2 / TXD2 / (LED2) (io), 22 P3_1 / SCLK2 / (LED1) (io), 23 P3_0 / SRDY2 / (LED0) (io), 24 COM3 (out), 25 COM2 (out), 26 COM1 (out), 27 COM0 (out), 28 VL3 (power), 29 P2_7 / SEG23 / VL2, 30 P2_6 / SEG22 / VL1, 31 P2_5 / SEG21 (io), 32 P2_4 / SEG20 (io), 33 P2_3/SEG19 (io), 34 P2_2/SEG18 (io), 35 P2_1/SEG17 (io), 36 P2_0/SEG16 (io), 37 P1_7/SEG15 (io), 38 P1_6/SEG14 (io), 39 P1_5/SEG13 (io), 40 P1_4/SEG12 (io), 41 P1_3/SEG11 (io), 42 P1_2/SEG10 (io), 43 P1_1/SEG9 (io), 44 P1_0/SEG8 (io), 45 P0_7/SEG7 (io), 46 P0_6/SEG6 (io), 47 P0_5/SEG5 (io), 48 P0_4/SEG4 (io), 49 P0_3 / SEG3 / (KW7) (io), 50 P0_2 / SEG2 / (KW6) (io), 51 P0_1 / SEG1 / (KW5) (io), 52 P0_0 / SEG0 / (KW4) (io), 53 P5_7 / ~{SRDY}1 / (KW3) (io), 54 P5_6 / SCLK1 / (KW2) (io), 55 P5_5 / TXD1 / (KW1) (io), 56 P5_4 / RXD1 / (KW0) (io), 57 P5_3 / T4OUT / PWM1 (io), 58 P5_2 / T3OUT / PWM0 (io), 59 P5_1 / INT1 (io), 60 P5_0 / INT0 (io), 61 AVSS (power), 62 VREF (in), 63 P4_7 / RTP1 / AN7 (io), 64 P4_6 / RTP0_ / AN6 (io)

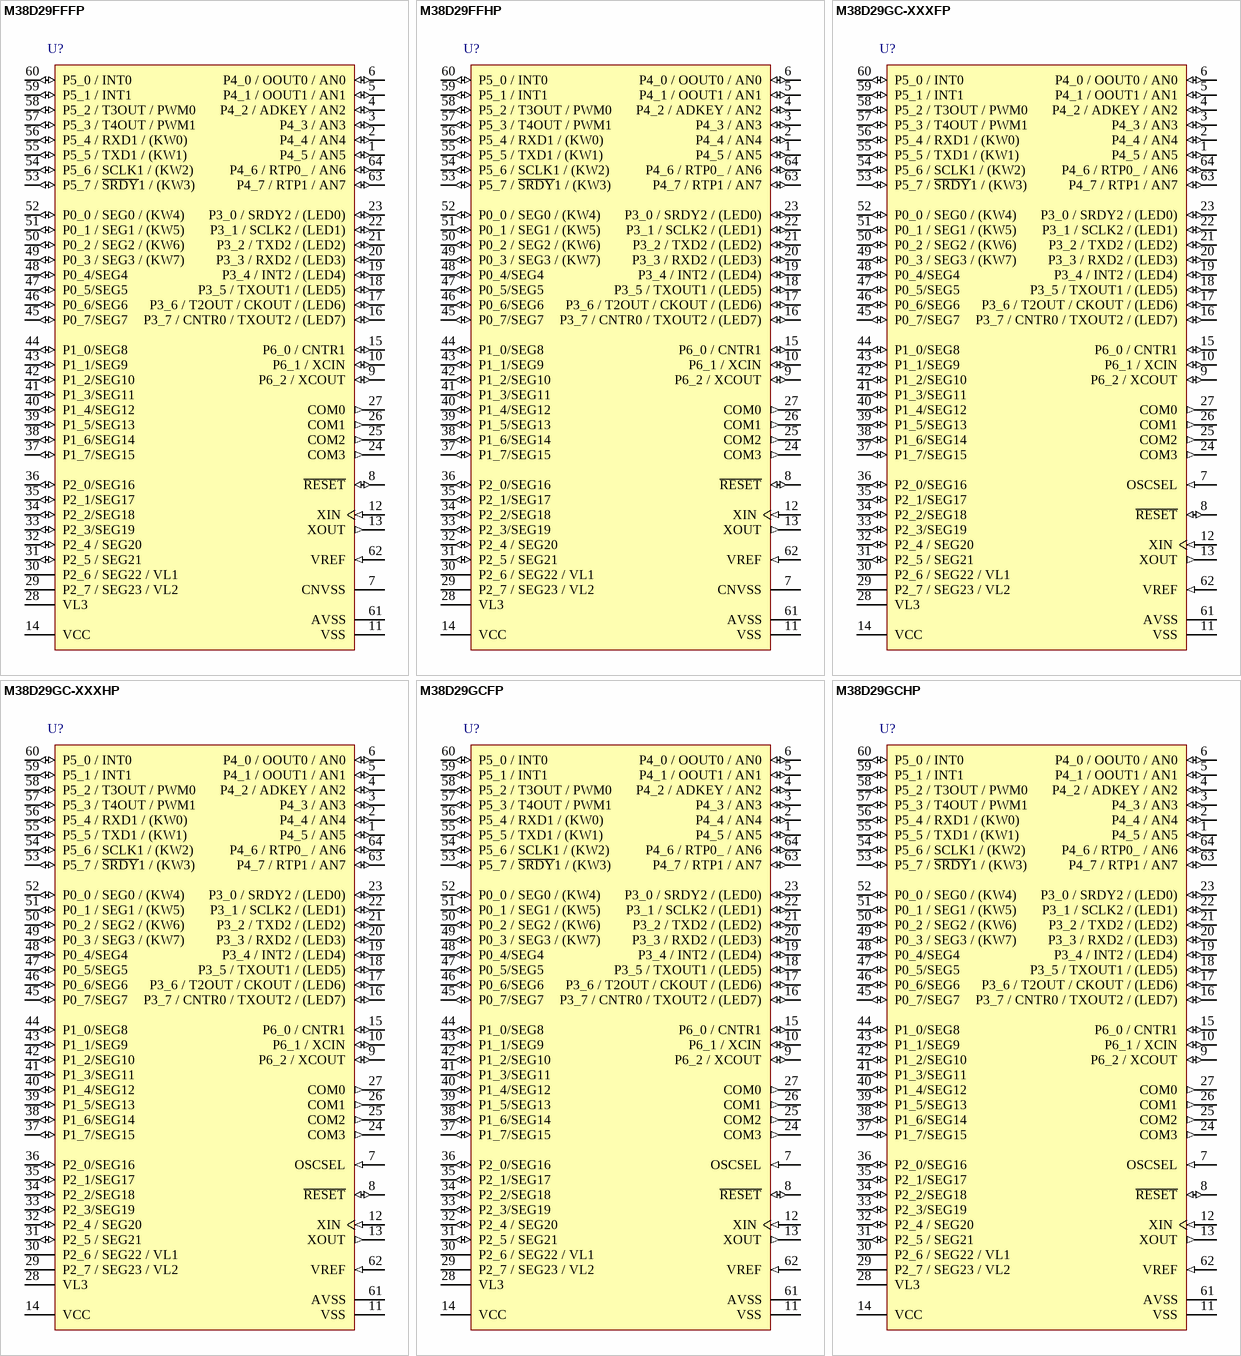
[diagram p2: symbols M38D29FFFP to M38D29GCHP]

## M38D29FFFP
designator U?
Flash Memory 8-BIT CMOS Microcomputer, 38000/740 Series CPU, 38D2 Group, 60K ROM, 2K RAM, 64P6U-A Pkg; Published: 28-Aug-2009; DatasheetVersion: Rev.3.02, Apr-2008; PackageVersion: Oct-2005; PackageReference: PLQP0064GA-A; Publisher: Altium Limited; PackageDescription: 64-Pin Plastic Low Profile QFP, 14 x 14 x 1.4 mm Body, 0.8 mm Pitch; Code_JEITA: P-LQFP64-14x14-0.80; ComponentLink1Description: Manufacturer Link; ComponentLink1URL: http://sg.renesas.com/fmwk.jsp?cnt=740_family_landing.jsp&fp=/products/mpumcu/740_family/; ComponentLink2Description: Datasheet; ComponentLink2URL: http://documentation.renesas.com/eng/products/mpumcu/rej03b0177_38d2ds.pdf; ComponentLink3Description: Packaging Specification; ComponentLink3URL: http://sg.renesas.com/media/products/common_info/package/pdf/ic/code/plqp0064ga_a.pdf
footprint PLQP0064GA-A_N (QFP, 64-Leads, Body 14x14mm, Pitch 0.8mm, IPC Medium Density)
footprint PLQP0064GA-A_L (QFP, 64-Leads, Body 14x14mm, Pitch 0.8mm, IPC High Density)
footprint PLQP0064GA-A_M (QFP, 64-Leads, Body 14x14mm, Pitch 0.8mm, IPC Low Density)
pins: 1 P4_5 / AN5 (io), 2 P4_4 / AN4 (io), 3 P4_3 / AN3 (io), 4 P4_2 / ADKEY / AN2 (io), 5 P4_1 / OOUT1 / AN1 (io), 6 P4_0 / OOUT0 / AN0 (io), 7 CNVSS (power), 8 ~{RESET} (io), 9 P6_2 / XCOUT (io), 10 P6_1 / XCIN (io), 11 VSS (power), 12 XIN (in), 13 XOUT (out), 14 VCC (power), 15 P6_0 / CNTR1 (io), 16 P3_7 / CNTR0 / TXOUT2 / (LED7) (io), 17 P3_6 / T2OUT / CKOUT / (LED6) (io), 18 P3_5 / TXOUT1 / (LED5) (io), 19 P3_4 / INT2 / (LED4) (io), 20 P3_3 / RXD2 / (LED3) (io), 21 P3_2 / TXD2 / (LED2) (io), 22 P3_1 / SCLK2 / (LED1) (io), 23 P3_0 / SRDY2 / (LED0) (io), 24 COM3 (out), 25 COM2 (out), 26 COM1 (out), 27 COM0 (out), 28 VL3 (power), 29 P2_7 / SEG23 / VL2, 30 P2_6 / SEG22 / VL1, 31 P2_5 / SEG21 (io), 32 P2_4 / SEG20 (io), 33 P2_3/SEG19 (io), 34 P2_2/SEG18 (io), 35 P2_1/SEG17 (io), 36 P2_0/SEG16 (io), 37 P1_7/SEG15 (io), 38 P1_6/SEG14 (io), 39 P1_5/SEG13 (io), 40 P1_4/SEG12 (io), 41 P1_3/SEG11 (io), 42 P1_2/SEG10 (io), 43 P1_1/SEG9 (io), 44 P1_0/SEG8 (io), 45 P0_7/SEG7 (io), 46 P0_6/SEG6 (io), 47 P0_5/SEG5 (io), 48 P0_4/SEG4 (io), 49 P0_3 / SEG3 / (KW7) (io), 50 P0_2 / SEG2 / (KW6) (io), 51 P0_1 / SEG1 / (KW5) (io), 52 P0_0 / SEG0 / (KW4) (io), 53 P5_7 / ~{SRDY}1 / (KW3) (io), 54 P5_6 / SCLK1 / (KW2) (io), 55 P5_5 / TXD1 / (KW1) (io), 56 P5_4 / RXD1 / (KW0) (io), 57 P5_3 / T4OUT / PWM1 (io), 58 P5_2 / T3OUT / PWM0 (io), 59 P5_1 / INT1 (io), 60 P5_0 / INT0 (io), 61 AVSS (power), 62 VREF (in), 63 P4_7 / RTP1 / AN7 (io), 64 P4_6 / RTP0_ / AN6 (io)

## M38D29FFHP
designator U?
Flash Memory 8-BIT CMOS Microcomputer, 38000/740 Series CPU, 38D2 Group, 60K ROM, 2K RAM, 64P6Q-A Pkg; Published: 28-Aug-2009; DatasheetVersion: Rev.3.02, Apr-2008; PackageVersion: Sep-2005; PackageReference: PLQP0064KB-A; Publisher: Altium Limited; PackageDescription: 64-Pin Plastic Low Profile QFP, 10 x 10 x 1.4 mm Body, 0.5 mm Pitch; Code_JEITA: P-LQFP64-10x10-0.50; Code_IPC: SQFP50P1200X1200-64; ComponentLink1Description: Manufacturer Link; ComponentLink1URL: http://sg.renesas.com/fmwk.jsp?cnt=740_family_landing.jsp&fp=/products/mpumcu/740_family/; ComponentLink2Description: Datasheet; ComponentLink2URL: http://documentation.renesas.com/eng/products/mpumcu/rej03b0177_38d2ds.pdf; ComponentLink3Description: Packaging Specification; ComponentLink3URL: http://sg.renesas.com/media/products/common_info/package/pdf/ic/code/plqp0064kb_a.pdf
footprint PLQP0064KB-A_N (Shrink QFP, 64-Leads, Body 10x10mm, Pitch 0.5mm, IPC Medium Density)
footprint PLQP0064KB-A_L (Shrink QFP, 64-Leads, Body 10x10mm, Pitch 0.5mm, IPC High Density)
footprint PLQP0064KB-A_M (Shrink QFP, 64-Leads, Body 10x10mm, Pitch 0.5mm, IPC Low Density)
pins: 1 P4_5 / AN5 (io), 2 P4_4 / AN4 (io), 3 P4_3 / AN3 (io), 4 P4_2 / ADKEY / AN2 (io), 5 P4_1 / OOUT1 / AN1 (io), 6 P4_0 / OOUT0 / AN0 (io), 7 CNVSS (power), 8 ~{RESET} (io), 9 P6_2 / XCOUT (io), 10 P6_1 / XCIN (io), 11 VSS (power), 12 XIN (in), 13 XOUT (out), 14 VCC (power), 15 P6_0 / CNTR1 (io), 16 P3_7 / CNTR0 / TXOUT2 / (LED7) (io), 17 P3_6 / T2OUT / CKOUT / (LED6) (io), 18 P3_5 / TXOUT1 / (LED5) (io), 19 P3_4 / INT2 / (LED4) (io), 20 P3_3 / RXD2 / (LED3) (io), 21 P3_2 / TXD2 / (LED2) (io), 22 P3_1 / SCLK2 / (LED1) (io), 23 P3_0 / SRDY2 / (LED0) (io), 24 COM3 (out), 25 COM2 (out), 26 COM1 (out), 27 COM0 (out), 28 VL3 (power), 29 P2_7 / SEG23 / VL2, 30 P2_6 / SEG22 / VL1, 31 P2_5 / SEG21 (io), 32 P2_4 / SEG20 (io), 33 P2_3/SEG19 (io), 34 P2_2/SEG18 (io), 35 P2_1/SEG17 (io), 36 P2_0/SEG16 (io), 37 P1_7/SEG15 (io), 38 P1_6/SEG14 (io), 39 P1_5/SEG13 (io), 40 P1_4/SEG12 (io), 41 P1_3/SEG11 (io), 42 P1_2/SEG10 (io), 43 P1_1/SEG9 (io), 44 P1_0/SEG8 (io), 45 P0_7/SEG7 (io), 46 P0_6/SEG6 (io), 47 P0_5/SEG5 (io), 48 P0_4/SEG4 (io), 49 P0_3 / SEG3 / (KW7) (io), 50 P0_2 / SEG2 / (KW6) (io), 51 P0_1 / SEG1 / (KW5) (io), 52 P0_0 / SEG0 / (KW4) (io), 53 P5_7 / ~{SRDY}1 / (KW3) (io), 54 P5_6 / SCLK1 / (KW2) (io), 55 P5_5 / TXD1 / (KW1) (io), 56 P5_4 / RXD1 / (KW0) (io), 57 P5_3 / T4OUT / PWM1 (io), 58 P5_2 / T3OUT / PWM0 (io), 59 P5_1 / INT1 (io), 60 P5_0 / INT0 (io), 61 AVSS (power), 62 VREF (in), 63 P4_7 / RTP1 / AN7 (io), 64 P4_6 / RTP0_ / AN6 (io)

## M38D29GC-XXXFP
designator U?
QzROM 8-BIT CMOS Microcomputer, 38000/740 Series CPU, 38D2 Group, 48K ROM, 2K RAM, 64P6U-A Pkg; Published: 28-Aug-2009; DatasheetVersion: Rev.3.02, Apr-2008; PackageVersion: Oct-2005; PackageReference: PLQP0064GA-A; Publisher: Altium Limited; PackageDescription: 64-Pin Plastic Low Profile QFP, 14 x 14 x 1.4 mm Body, 0.8 mm Pitch; Code_JEITA: P-LQFP64-14x14-0.80; ComponentLink1Description: Manufacturer Link; ComponentLink1URL: http://sg.renesas.com/fmwk.jsp?cnt=740_family_landing.jsp&fp=/products/mpumcu/740_family/; ComponentLink2Description: Datasheet; ComponentLink2URL: http://documentation.renesas.com/eng/products/mpumcu/rej03b0177_38d2ds.pdf; ComponentLink3Description: Packaging Specification; ComponentLink3URL: http://sg.renesas.com/media/products/common_info/package/pdf/ic/code/plqp0064ga_a.pdf
footprint PLQP0064GA-A_N (QFP, 64-Leads, Body 14x14mm, Pitch 0.8mm, IPC Medium Density)
footprint PLQP0064GA-A_L (QFP, 64-Leads, Body 14x14mm, Pitch 0.8mm, IPC High Density)
footprint PLQP0064GA-A_M (QFP, 64-Leads, Body 14x14mm, Pitch 0.8mm, IPC Low Density)
pins: 1 P4_5 / AN5 (io), 2 P4_4 / AN4 (io), 3 P4_3 / AN3 (io), 4 P4_2 / ADKEY / AN2 (io), 5 P4_1 / OOUT1 / AN1 (io), 6 P4_0 / OOUT0 / AN0 (io), 7 OSCSEL (in), 8 ~{RESET} (io), 9 P6_2 / XCOUT (io), 10 P6_1 / XCIN (io), 11 VSS (power), 12 XIN (in), 13 XOUT (out), 14 VCC (power), 15 P6_0 / CNTR1 (io), 16 P3_7 / CNTR0 / TXOUT2 / (LED7) (io), 17 P3_6 / T2OUT / CKOUT / (LED6) (io), 18 P3_5 / TXOUT1 / (LED5) (io), 19 P3_4 / INT2 / (LED4) (io), 20 P3_3 / RXD2 / (LED3) (io), 21 P3_2 / TXD2 / (LED2) (io), 22 P3_1 / SCLK2 / (LED1) (io), 23 P3_0 / SRDY2 / (LED0) (io), 24 COM3 (out), 25 COM2 (out), 26 COM1 (out), 27 COM0 (out), 28 VL3 (power), 29 P2_7 / SEG23 / VL2, 30 P2_6 / SEG22 / VL1, 31 P2_5 / SEG21 (io), 32 P2_4 / SEG20 (io), 33 P2_3/SEG19 (io), 34 P2_2/SEG18 (io), 35 P2_1/SEG17 (io), 36 P2_0/SEG16 (io), 37 P1_7/SEG15 (io), 38 P1_6/SEG14 (io), 39 P1_5/SEG13 (io), 40 P1_4/SEG12 (io), 41 P1_3/SEG11 (io), 42 P1_2/SEG10 (io), 43 P1_1/SEG9 (io), 44 P1_0/SEG8 (io), 45 P0_7/SEG7 (io), 46 P0_6/SEG6 (io), 47 P0_5/SEG5 (io), 48 P0_4/SEG4 (io), 49 P0_3 / SEG3 / (KW7) (io), 50 P0_2 / SEG2 / (KW6) (io), 51 P0_1 / SEG1 / (KW5) (io), 52 P0_0 / SEG0 / (KW4) (io), 53 P5_7 / ~{SRDY}1 / (KW3) (io), 54 P5_6 / SCLK1 / (KW2) (io), 55 P5_5 / TXD1 / (KW1) (io), 56 P5_4 / RXD1 / (KW0) (io), 57 P5_3 / T4OUT / PWM1 (io), 58 P5_2 / T3OUT / PWM0 (io), 59 P5_1 / INT1 (io), 60 P5_0 / INT0 (io), 61 AVSS (power), 62 VREF (in), 63 P4_7 / RTP1 / AN7 (io), 64 P4_6 / RTP0_ / AN6 (io)

## M38D29GC-XXXHP
designator U?
QzROM 8-BIT CMOS Microcomputer, 38000/740 Series CPU, 38D2 Group, 48K ROM, 2K RAM, 64P6Q-A Pkg; Published: 28-Aug-2009; DatasheetVersion: Rev.3.02, Apr-2008; PackageVersion: Sep-2005; PackageReference: PLQP0064KB-A; Publisher: Altium Limited; PackageDescription: 64-Pin Plastic Low Profile QFP, 10 x 10 x 1.4 mm Body, 0.5 mm Pitch; Code_JEITA: P-LQFP64-10x10-0.50; Code_IPC: SQFP50P1200X1200-64; ComponentLink1Description: Manufacturer Link; ComponentLink1URL: http://sg.renesas.com/fmwk.jsp?cnt=740_family_landing.jsp&fp=/products/mpumcu/740_family/; ComponentLink2Description: Datasheet; ComponentLink2URL: http://documentation.renesas.com/eng/products/mpumcu/rej03b0177_38d2ds.pdf; ComponentLink3Description: Packaging Specification; ComponentLink3URL: http://sg.renesas.com/media/products/common_info/package/pdf/ic/code/plqp0064kb_a.pdf
footprint PLQP0064KB-A_N (Shrink QFP, 64-Leads, Body 10x10mm, Pitch 0.5mm, IPC Medium Density)
footprint PLQP0064KB-A_L (Shrink QFP, 64-Leads, Body 10x10mm, Pitch 0.5mm, IPC High Density)
footprint PLQP0064KB-A_M (Shrink QFP, 64-Leads, Body 10x10mm, Pitch 0.5mm, IPC Low Density)
pins: 1 P4_5 / AN5 (io), 2 P4_4 / AN4 (io), 3 P4_3 / AN3 (io), 4 P4_2 / ADKEY / AN2 (io), 5 P4_1 / OOUT1 / AN1 (io), 6 P4_0 / OOUT0 / AN0 (io), 7 OSCSEL (in), 8 ~{RESET} (io), 9 P6_2 / XCOUT (io), 10 P6_1 / XCIN (io), 11 VSS (power), 12 XIN (in), 13 XOUT (out), 14 VCC (power), 15 P6_0 / CNTR1 (io), 16 P3_7 / CNTR0 / TXOUT2 / (LED7) (io), 17 P3_6 / T2OUT / CKOUT / (LED6) (io), 18 P3_5 / TXOUT1 / (LED5) (io), 19 P3_4 / INT2 / (LED4) (io), 20 P3_3 / RXD2 / (LED3) (io), 21 P3_2 / TXD2 / (LED2) (io), 22 P3_1 / SCLK2 / (LED1) (io), 23 P3_0 / SRDY2 / (LED0) (io), 24 COM3 (out), 25 COM2 (out), 26 COM1 (out), 27 COM0 (out), 28 VL3 (power), 29 P2_7 / SEG23 / VL2, 30 P2_6 / SEG22 / VL1, 31 P2_5 / SEG21 (io), 32 P2_4 / SEG20 (io), 33 P2_3/SEG19 (io), 34 P2_2/SEG18 (io), 35 P2_1/SEG17 (io), 36 P2_0/SEG16 (io), 37 P1_7/SEG15 (io), 38 P1_6/SEG14 (io), 39 P1_5/SEG13 (io), 40 P1_4/SEG12 (io), 41 P1_3/SEG11 (io), 42 P1_2/SEG10 (io), 43 P1_1/SEG9 (io), 44 P1_0/SEG8 (io), 45 P0_7/SEG7 (io), 46 P0_6/SEG6 (io), 47 P0_5/SEG5 (io), 48 P0_4/SEG4 (io), 49 P0_3 / SEG3 / (KW7) (io), 50 P0_2 / SEG2 / (KW6) (io), 51 P0_1 / SEG1 / (KW5) (io), 52 P0_0 / SEG0 / (KW4) (io), 53 P5_7 / ~{SRDY}1 / (KW3) (io), 54 P5_6 / SCLK1 / (KW2) (io), 55 P5_5 / TXD1 / (KW1) (io), 56 P5_4 / RXD1 / (KW0) (io), 57 P5_3 / T4OUT / PWM1 (io), 58 P5_2 / T3OUT / PWM0 (io), 59 P5_1 / INT1 (io), 60 P5_0 / INT0 (io), 61 AVSS (power), 62 VREF (in), 63 P4_7 / RTP1 / AN7 (io), 64 P4_6 / RTP0_ / AN6 (io)

## M38D29GCFP
designator U?
QzROM 8-BIT CMOS Microcomputer, 38000/740 Series CPU, 38D2 Group, 48K ROM, 2K RAM, 64P6U-A Pkg, shipped in blank; Published: 28-Aug-2009; DatasheetVersion: Rev.3.02, Apr-2008; PackageVersion: Oct-2005; PackageReference: PLQP0064GA-A; Publisher: Altium Limited; PackageDescription: 64-Pin Plastic Low Profile QFP, 14 x 14 x 1.4 mm Body, 0.8 mm Pitch; Code_JEITA: P-LQFP64-14x14-0.80; ComponentLink1Description: Manufacturer Link; ComponentLink1URL: http://sg.renesas.com/fmwk.jsp?cnt=740_family_landing.jsp&fp=/products/mpumcu/740_family/; ComponentLink2Description: Datasheet; ComponentLink2URL: http://documentation.renesas.com/eng/products/mpumcu/rej03b0177_38d2ds.pdf; ComponentLink3Description: Packaging Specification; ComponentLink3URL: http://sg.renesas.com/media/products/common_info/package/pdf/ic/code/plqp0064ga_a.pdf
footprint PLQP0064GA-A_N (QFP, 64-Leads, Body 14x14mm, Pitch 0.8mm, IPC Medium Density)
footprint PLQP0064GA-A_L (QFP, 64-Leads, Body 14x14mm, Pitch 0.8mm, IPC High Density)
footprint PLQP0064GA-A_M (QFP, 64-Leads, Body 14x14mm, Pitch 0.8mm, IPC Low Density)
pins: 1 P4_5 / AN5 (io), 2 P4_4 / AN4 (io), 3 P4_3 / AN3 (io), 4 P4_2 / ADKEY / AN2 (io), 5 P4_1 / OOUT1 / AN1 (io), 6 P4_0 / OOUT0 / AN0 (io), 7 OSCSEL (in), 8 ~{RESET} (io), 9 P6_2 / XCOUT (io), 10 P6_1 / XCIN (io), 11 VSS (power), 12 XIN (in), 13 XOUT (out), 14 VCC (power), 15 P6_0 / CNTR1 (io), 16 P3_7 / CNTR0 / TXOUT2 / (LED7) (io), 17 P3_6 / T2OUT / CKOUT / (LED6) (io), 18 P3_5 / TXOUT1 / (LED5) (io), 19 P3_4 / INT2 / (LED4) (io), 20 P3_3 / RXD2 / (LED3) (io), 21 P3_2 / TXD2 / (LED2) (io), 22 P3_1 / SCLK2 / (LED1) (io), 23 P3_0 / SRDY2 / (LED0) (io), 24 COM3 (out), 25 COM2 (out), 26 COM1 (out), 27 COM0 (out), 28 VL3 (power), 29 P2_7 / SEG23 / VL2, 30 P2_6 / SEG22 / VL1, 31 P2_5 / SEG21 (io), 32 P2_4 / SEG20 (io), 33 P2_3/SEG19 (io), 34 P2_2/SEG18 (io), 35 P2_1/SEG17 (io), 36 P2_0/SEG16 (io), 37 P1_7/SEG15 (io), 38 P1_6/SEG14 (io), 39 P1_5/SEG13 (io), 40 P1_4/SEG12 (io), 41 P1_3/SEG11 (io), 42 P1_2/SEG10 (io), 43 P1_1/SEG9 (io), 44 P1_0/SEG8 (io), 45 P0_7/SEG7 (io), 46 P0_6/SEG6 (io), 47 P0_5/SEG5 (io), 48 P0_4/SEG4 (io), 49 P0_3 / SEG3 / (KW7) (io), 50 P0_2 / SEG2 / (KW6) (io), 51 P0_1 / SEG1 / (KW5) (io), 52 P0_0 / SEG0 / (KW4) (io), 53 P5_7 / ~{SRDY}1 / (KW3) (io), 54 P5_6 / SCLK1 / (KW2) (io), 55 P5_5 / TXD1 / (KW1) (io), 56 P5_4 / RXD1 / (KW0) (io), 57 P5_3 / T4OUT / PWM1 (io), 58 P5_2 / T3OUT / PWM0 (io), 59 P5_1 / INT1 (io), 60 P5_0 / INT0 (io), 61 AVSS (power), 62 VREF (in), 63 P4_7 / RTP1 / AN7 (io), 64 P4_6 / RTP0_ / AN6 (io)

## M38D29GCHP
designator U?
QzROM 8-BIT CMOS Microcomputer, 38000/740 Series CPU, 38D2 Group, 48K ROM, 2K RAM, 64P6Q-A Pkg, shipped in blank; Published: 28-Aug-2009; DatasheetVersion: Rev.3.02, Apr-2008; PackageVersion: Sep-2005; PackageReference: PLQP0064KB-A; Publisher: Altium Limited; PackageDescription: 64-Pin Plastic Low Profile QFP, 10 x 10 x 1.4 mm Body, 0.5 mm Pitch; Code_JEITA: P-LQFP64-10x10-0.50; Code_IPC: SQFP50P1200X1200-64; ComponentLink1Description: Manufacturer Link; ComponentLink1URL: http://sg.renesas.com/fmwk.jsp?cnt=740_family_landing.jsp&fp=/products/mpumcu/740_family/; ComponentLink2Description: Datasheet; ComponentLink2URL: http://documentation.renesas.com/eng/products/mpumcu/rej03b0177_38d2ds.pdf; ComponentLink3Description: Packaging Specification; ComponentLink3URL: http://sg.renesas.com/media/products/common_info/package/pdf/ic/code/plqp0064kb_a.pdf
footprint PLQP0064KB-A_N (Shrink QFP, 64-Leads, Body 10x10mm, Pitch 0.5mm, IPC Medium Density)
footprint PLQP0064KB-A_L (Shrink QFP, 64-Leads, Body 10x10mm, Pitch 0.5mm, IPC High Density)
footprint PLQP0064KB-A_M (Shrink QFP, 64-Leads, Body 10x10mm, Pitch 0.5mm, IPC Low Density)
pins: 1 P4_5 / AN5 (io), 2 P4_4 / AN4 (io), 3 P4_3 / AN3 (io), 4 P4_2 / ADKEY / AN2 (io), 5 P4_1 / OOUT1 / AN1 (io), 6 P4_0 / OOUT0 / AN0 (io), 7 OSCSEL (in), 8 ~{RESET} (io), 9 P6_2 / XCOUT (io), 10 P6_1 / XCIN (io), 11 VSS (power), 12 XIN (in), 13 XOUT (out), 14 VCC (power), 15 P6_0 / CNTR1 (io), 16 P3_7 / CNTR0 / TXOUT2 / (LED7) (io), 17 P3_6 / T2OUT / CKOUT / (LED6) (io), 18 P3_5 / TXOUT1 / (LED5) (io), 19 P3_4 / INT2 / (LED4) (io), 20 P3_3 / RXD2 / (LED3) (io), 21 P3_2 / TXD2 / (LED2) (io), 22 P3_1 / SCLK2 / (LED1) (io), 23 P3_0 / SRDY2 / (LED0) (io), 24 COM3 (out), 25 COM2 (out), 26 COM1 (out), 27 COM0 (out), 28 VL3 (power), 29 P2_7 / SEG23 / VL2, 30 P2_6 / SEG22 / VL1, 31 P2_5 / SEG21 (io), 32 P2_4 / SEG20 (io), 33 P2_3/SEG19 (io), 34 P2_2/SEG18 (io), 35 P2_1/SEG17 (io), 36 P2_0/SEG16 (io), 37 P1_7/SEG15 (io), 38 P1_6/SEG14 (io), 39 P1_5/SEG13 (io), 40 P1_4/SEG12 (io), 41 P1_3/SEG11 (io), 42 P1_2/SEG10 (io), 43 P1_1/SEG9 (io), 44 P1_0/SEG8 (io), 45 P0_7/SEG7 (io), 46 P0_6/SEG6 (io), 47 P0_5/SEG5 (io), 48 P0_4/SEG4 (io), 49 P0_3 / SEG3 / (KW7) (io), 50 P0_2 / SEG2 / (KW6) (io), 51 P0_1 / SEG1 / (KW5) (io), 52 P0_0 / SEG0 / (KW4) (io), 53 P5_7 / ~{SRDY}1 / (KW3) (io), 54 P5_6 / SCLK1 / (KW2) (io), 55 P5_5 / TXD1 / (KW1) (io), 56 P5_4 / RXD1 / (KW0) (io), 57 P5_3 / T4OUT / PWM1 (io), 58 P5_2 / T3OUT / PWM0 (io), 59 P5_1 / INT1 (io), 60 P5_0 / INT0 (io), 61 AVSS (power), 62 VREF (in), 63 P4_7 / RTP1 / AN7 (io), 64 P4_6 / RTP0_ / AN6 (io)

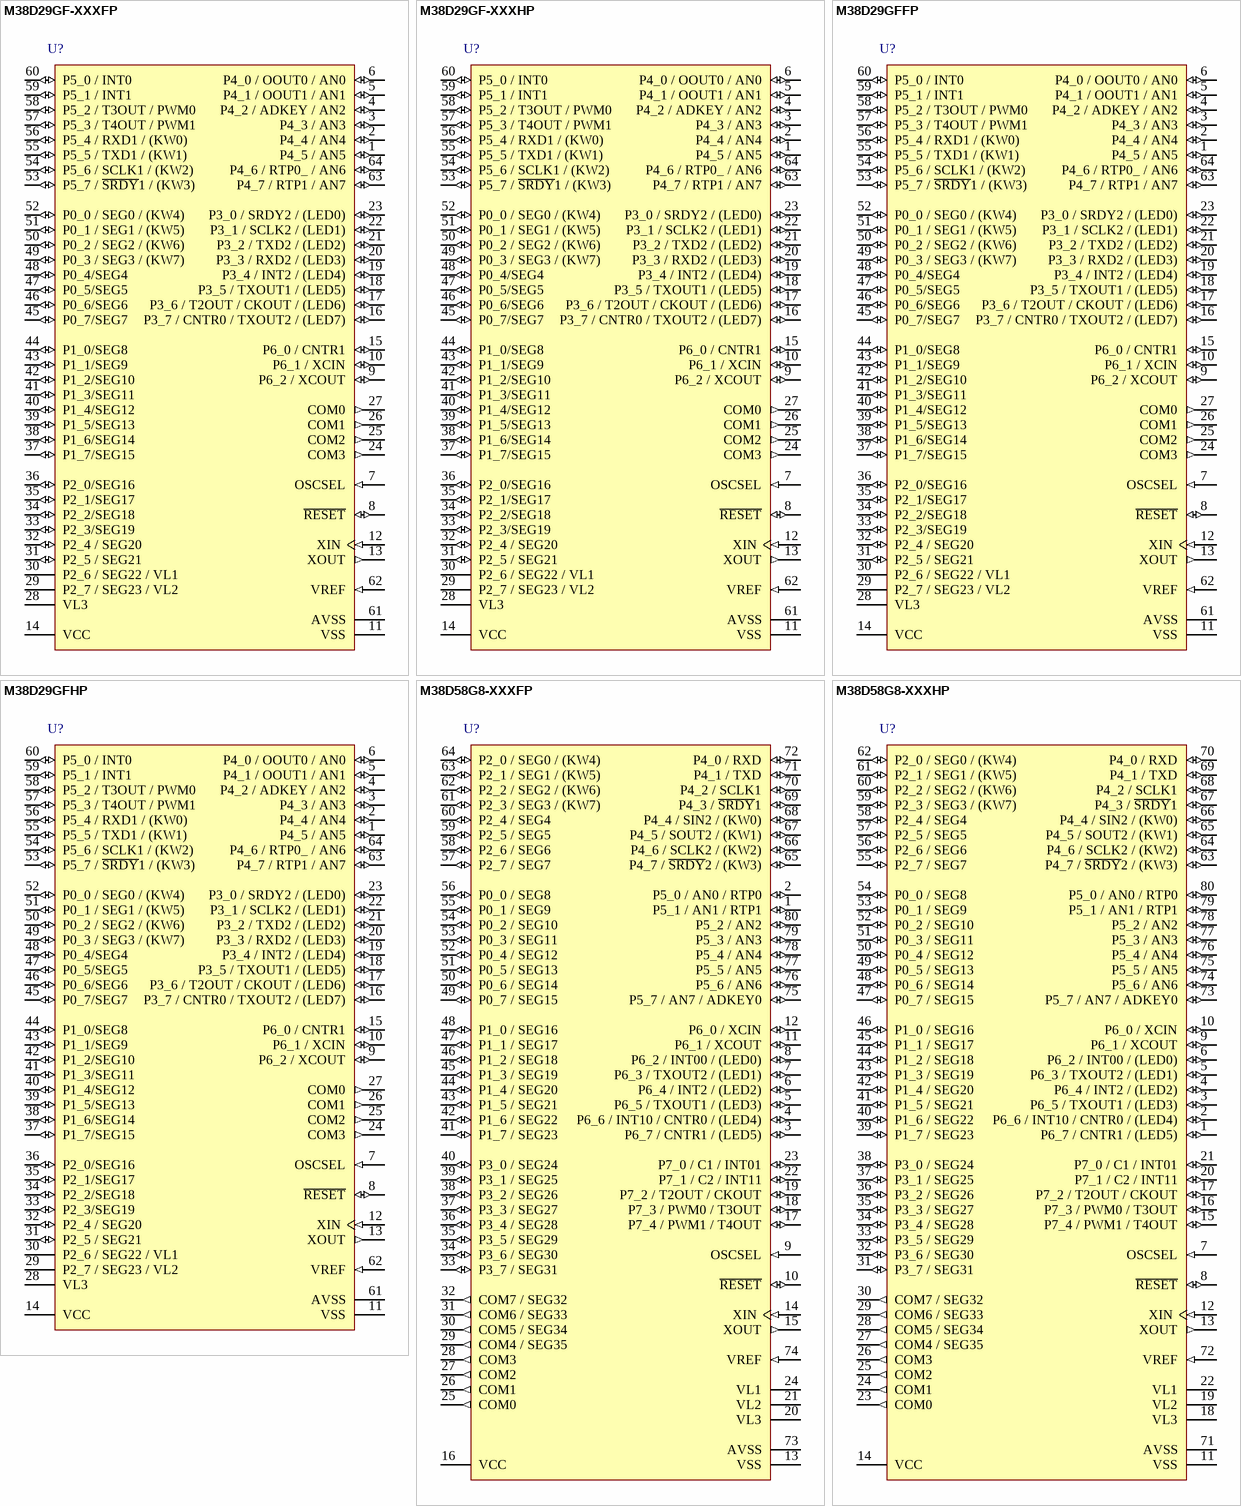
[diagram p3: symbols M38D29GF-XXXFP to M38D58G8-XXXHP]

## M38D29GF-XXXFP
designator U?
QzROM 8-BIT CMOS Microcomputer, 38000/740 Series CPU, 38D2 Group, 60K ROM, 2K RAM, 64P6U-A Pkg; Published: 28-Aug-2009; DatasheetVersion: Rev.3.02, Apr-2008; PackageVersion: Oct-2005; PackageReference: PLQP0064GA-A; Publisher: Altium Limited; PackageDescription: 64-Pin Plastic Low Profile QFP, 14 x 14 x 1.4 mm Body, 0.8 mm Pitch; Code_JEITA: P-LQFP64-14x14-0.80; ComponentLink1Description: Manufacturer Link; ComponentLink1URL: http://sg.renesas.com/fmwk.jsp?cnt=740_family_landing.jsp&fp=/products/mpumcu/740_family/; ComponentLink2Description: Datasheet; ComponentLink2URL: http://documentation.renesas.com/eng/products/mpumcu/rej03b0177_38d2ds.pdf; ComponentLink3Description: Packaging Specification; ComponentLink3URL: http://sg.renesas.com/media/products/common_info/package/pdf/ic/code/plqp0064ga_a.pdf
footprint PLQP0064GA-A_N (QFP, 64-Leads, Body 14x14mm, Pitch 0.8mm, IPC Medium Density)
footprint PLQP0064GA-A_L (QFP, 64-Leads, Body 14x14mm, Pitch 0.8mm, IPC High Density)
footprint PLQP0064GA-A_M (QFP, 64-Leads, Body 14x14mm, Pitch 0.8mm, IPC Low Density)
pins: 1 P4_5 / AN5 (io), 2 P4_4 / AN4 (io), 3 P4_3 / AN3 (io), 4 P4_2 / ADKEY / AN2 (io), 5 P4_1 / OOUT1 / AN1 (io), 6 P4_0 / OOUT0 / AN0 (io), 7 OSCSEL (in), 8 ~{RESET} (io), 9 P6_2 / XCOUT (io), 10 P6_1 / XCIN (io), 11 VSS (power), 12 XIN (in), 13 XOUT (out), 14 VCC (power), 15 P6_0 / CNTR1 (io), 16 P3_7 / CNTR0 / TXOUT2 / (LED7) (io), 17 P3_6 / T2OUT / CKOUT / (LED6) (io), 18 P3_5 / TXOUT1 / (LED5) (io), 19 P3_4 / INT2 / (LED4) (io), 20 P3_3 / RXD2 / (LED3) (io), 21 P3_2 / TXD2 / (LED2) (io), 22 P3_1 / SCLK2 / (LED1) (io), 23 P3_0 / SRDY2 / (LED0) (io), 24 COM3 (out), 25 COM2 (out), 26 COM1 (out), 27 COM0 (out), 28 VL3 (power), 29 P2_7 / SEG23 / VL2, 30 P2_6 / SEG22 / VL1, 31 P2_5 / SEG21 (io), 32 P2_4 / SEG20 (io), 33 P2_3/SEG19 (io), 34 P2_2/SEG18 (io), 35 P2_1/SEG17 (io), 36 P2_0/SEG16 (io), 37 P1_7/SEG15 (io), 38 P1_6/SEG14 (io), 39 P1_5/SEG13 (io), 40 P1_4/SEG12 (io), 41 P1_3/SEG11 (io), 42 P1_2/SEG10 (io), 43 P1_1/SEG9 (io), 44 P1_0/SEG8 (io), 45 P0_7/SEG7 (io), 46 P0_6/SEG6 (io), 47 P0_5/SEG5 (io), 48 P0_4/SEG4 (io), 49 P0_3 / SEG3 / (KW7) (io), 50 P0_2 / SEG2 / (KW6) (io), 51 P0_1 / SEG1 / (KW5) (io), 52 P0_0 / SEG0 / (KW4) (io), 53 P5_7 / ~{SRDY}1 / (KW3) (io), 54 P5_6 / SCLK1 / (KW2) (io), 55 P5_5 / TXD1 / (KW1) (io), 56 P5_4 / RXD1 / (KW0) (io), 57 P5_3 / T4OUT / PWM1 (io), 58 P5_2 / T3OUT / PWM0 (io), 59 P5_1 / INT1 (io), 60 P5_0 / INT0 (io), 61 AVSS (power), 62 VREF (in), 63 P4_7 / RTP1 / AN7 (io), 64 P4_6 / RTP0_ / AN6 (io)